# Altium schematic symbol library Analog_Switch.SchLib: 165 symbols (part 1 of 2)
Pins are listed as number, name and electrical type; pins without a type are passive.

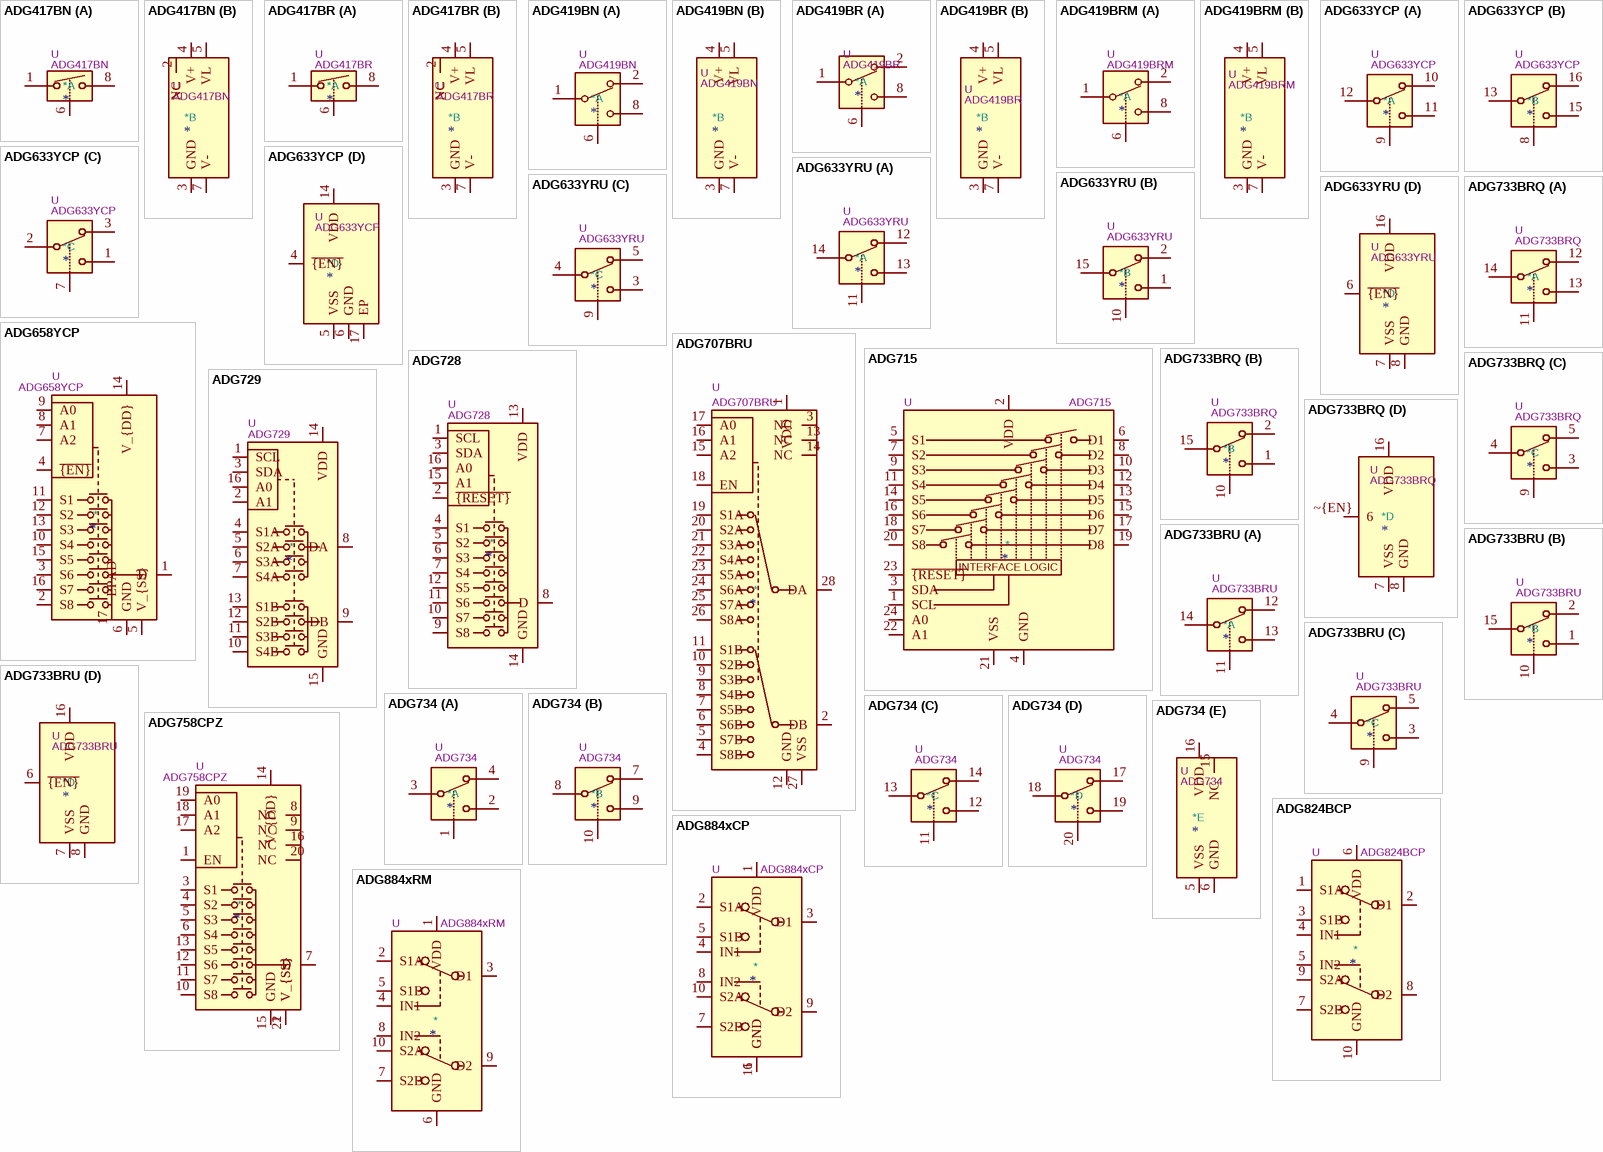
[diagram p0: symbols ADG417BN to ADG884xRM]

## ADG417BN
designator *  value ADG417BN  Reference: U
Single SPST Monolithic LC²MOS Analog Switch, normally OFF, 25Ohm Ron, DIP-8; ki_keywords: CMOS Analog Switch; ki_fp_filters: DIP*W7.62mm*; Footprint: Package_DIP:DIP-8_W7.62mm; Datasheet: https://www.analog.com/media/en/technical-documentation/data-sheets/ADG417.pdf; Description_: Single SPST Monolithic LC²MOS Analog Switch, normally OFF, 25Ohm Ron, DIP-8
part A pins: 1, 6, 8
part B pins: 2 NC, 3 GND, 4 V+, 5 VL, 7 V-

## ADG417BR
designator *  value ADG417BR  Reference: U
Single SPST Monolithic LC²MOS Analog Switch, normally OFF, 25Ohm Ron, SOIC-8; ki_keywords: CMOS Analog Switch; ki_fp_filters: SOIC*3.9x4.9mm*P1.27mm*; Footprint: Package_SO:SOIC-8_3.9x4.9mm_P1.27mm; Datasheet: https://www.analog.com/media/en/technical-documentation/data-sheets/ADG417.pdf; Description_: Single SPST Monolithic LC²MOS Analog Switch, normally OFF, 25Ohm Ron, SOIC-8
part A pins: 1, 6, 8
part B pins: 2 NC, 3 GND, 4 V+, 5 VL, 7 V-

## ADG419BN
designator *  value ADG419BN  Reference: U
Single SPDT Monolithic LC²MOS Analog Switch, 25Ohm Ron, DIP-8; ki_keywords: CMOS Analog Switch; ki_fp_filters: DIP*W7.62mm*; Footprint: Package_DIP:DIP-8_W7.62mm; Datasheet: https://www.analog.com/media/en/technical-documentation/data-sheets/ADG419.pdf; Description_: Single SPDT Monolithic LC²MOS Analog Switch, 25Ohm Ron, DIP-8
part A pins: 1, 2, 6, 8
part B pins: 3 GND, 4 V+, 5 VL, 7 V-

## ADG419BR
designator *  value ADG419BR  Reference: U
Single SPDT Monolithic LC²MOS Analog Switch, 25Ohm Ron, SOIC-8; ki_keywords: CMOS Analog Switch; ki_fp_filters: SOIC*3.9x4.9mm*P1.27mm*; Footprint: Package_SO:SOIC-8_3.9x4.9mm_P1.27mm; Datasheet: https://www.analog.com/media/en/technical-documentation/data-sheets/ADG419.pdf; Description_: Single SPDT Monolithic LC²MOS Analog Switch, 25Ohm Ron, SOIC-8
part A pins: 1, 2, 6, 8
part B pins: 3 GND, 4 V+, 5 VL, 7 V-

## ADG419BRM
designator *  value ADG419BRM  Reference: U
Single SPDT Monolithic LC²MOS Analog Switch, 25Ohm Ron, MSOP-8; ki_keywords: CMOS Analog Switch; ki_fp_filters: MSOP*3x3mm*P0.65mm*; Footprint: Package_SO:MSOP-8_3x3mm_P0.65mm; Datasheet: https://www.analog.com/media/en/technical-documentation/data-sheets/ADG419.pdf; Description_: Single SPDT Monolithic LC²MOS Analog Switch, 25Ohm Ron, MSOP-8
part A pins: 1, 2, 6, 8
part B pins: 3 GND, 4 V+, 5 VL, 7 V-

## ADG633YCP
designator *  value ADG633YCP  Reference: U
Triple SPDT CMOS Analog Switch, 52Ohm Ron, LFCSP-16; ki_fp_filters: LFCSP*1EP*4x4mm*P0.65mm*; Footprint: Package_CSP:LFCSP-16-1EP_4x4mm_P0.65mm_EP2.1x2.1mm; Datasheet: https://www.analog.com/media/en/technical-documentation/data-sheets/adg633.pdf; Description_: Triple SPDT CMOS Analog Switch, 52Ohm Ron, LFCSP-16; ki_keywords: CMOS Analog Switch
part A pins: 9, 10, 11, 12
part B pins: 8, 13, 15, 16
part C pins: 1, 2, 3, 7
part D pins: 4 ~{{EN}}, 5 VSS, 6 GND, 14 VDD, 17 EP

## ADG633YRU
designator *  value ADG633YRU  Reference: U
Triple SPDT CMOS Analog Switch, 52Ohm Ron, TSSOP-16; ki_fp_filters: TSSOP*4.4x5mm*P0.65mm*; Footprint: Package_SO:TSSOP-16_4.4x5mm_P0.65mm; Datasheet: https://www.analog.com/media/en/technical-documentation/data-sheets/ADG633.pdf; Description_: Triple SPDT CMOS Analog Switch, 52Ohm Ron, TSSOP-16; ki_keywords: CMOS Analog Switch
part A pins: 11, 12, 13, 14
part B pins: 1, 2, 10, 15
part C pins: 3, 4, 5, 9
part D pins: 6 ~{{EN}}, 7 VSS, 8 GND, 16 VDD

## ADG658YCP
designator *  value ADG658YCP  Reference: U
8-channel iCMOS analog multiplexer, 45 Ohm Ron, 210 MHz, LFCSP-16; ki_keywords: analog switch multiplexer SP8T; ki_fp_filters: *LFCSP*1EP*4x4mm*P0.65mm*; Footprint: Package_CSP:Analog_LFCSP-16-1EP_4x4mm_P0.65mm_EP2.1x2.1mm; Datasheet: https://www.analog.com/media/en/technical-documentation/data-sheets/ADG658_659.pdf; Description_: 8-channel iCMOS analog multiplexer, 45 Ohm Ron, 210 MHz, LFCSP-16
pins: 1 D, 2 S8, 3 S6, 4 ~{{EN}}, 5 V_{SS}, 6 GND, 7 A2, 8 A1, 9 A0, 10 S4, 11 S1, 12 S2, 13 S3, 14 V_{DD}, 15 S5, 16 S7, 17 EPAD

## ADG707BRU
designator *  value ADG707BRU  Reference: U
Differential 8-to-1 Multiplexer, 2.5 Ohm Ron, 36Mhz, TSSOP-28; ki_keywords: analog switch selector differencial multiplexer; ki_fp_filters: TSSOP*4.4x9.7mm*P0.65mm*; Footprint: Package_SO:TSSOP-28_4.4x9.7mm_P0.65mm; Datasheet: https://www.analog.com/media/en/technical-documentation/data-sheets/ADG706_707.pdf; Description_: Differential 8-to-1 Multiplexer, 2.5 Ohm Ron, 36Mhz, TSSOP-28
pins: 1 VDD, 2 DB, 3 NC, 4 S8B, 5 S7B, 6 S6B, 7 S5B, 8 S4B, 9 S3B, 10 S2B, 11 S1B, 12 GND, 13 NC, 14 NC, 15 A2, 16 A1, 17 A0, 18 EN, 19 S1A, 20 S2A, 21 S3A, 22 S4A, 23 S5A, 24 S6A, 25 S7A, 26 S8A, 27 VSS, 28 DA

## ADG715
designator *  value ADG715  Reference: U
CMOS, Low Voltage, Serially Controlled, Octal SPST Switch, I2C interface, TSSOP-24; ki_keywords: CMOS, Switch, I2C; ki_fp_filters: TSSOP*4.4x7.8mm*P0.65mm*; Footprint: Package_SO:TSSOP-24_4.4x7.8mm_P0.65mm; Datasheet: https://www.analog.com/media/en/technical-documentation/data-sheets/ADG714_715.pdf; Description_: CMOS, Low Voltage, Serially Controlled, Octal SPST Switch, I2C interface, TSSOP-24
pins: 1 SCL, 2 VDD, 3 SDA, 4 GND, 5 S1, 6 D1, 7 S2, 8 D2, 9 S3, 10 D3, 11 S4, 12 D4, 13 D5, 14 S5, 15 D6, 16 S6, 17 D7, 18 S7, 19 D8, 20 S8, 21 VSS, 22 A1, 23 ~{{RESET}}, 24 A0
text: INTERFACE LOGIC

## ADG728
designator *  value ADG728  Reference: U
Single 8-to-1 CMOS Low Voltage 2-Wire Serially Controlled, Matrix Switches; ki_keywords: analog switch selector multiplexer TWI I2C IIC 8-to-1; ki_fp_filters: TSSOP*4.4x5mm*P0.65mm*; Footprint: Package_SO:TSSOP-16_4.4x5mm_P0.65mm; Datasheet: https://www.analog.com/media/en/technical-documentation/data-sheets/ADG728_729.pdf; Description_: Single 8-to-1 CMOS Low Voltage 2-Wire Serially Controlled, Matrix Switches
pins: 1 SCL, 2 ~{{RESET}}, 3 SDA, 4 S1, 5 S2, 6 S3, 7 S4, 8 D, 9 S8, 10 S7, 11 S6, 12 S5, 13 VDD, 14 GND, 15 A1, 16 A0

## ADG729
designator *  value ADG729  Reference: U
Dual 4-to-1 CMOS Low Voltage 2-Wire Serially Controlled, Matrix Switches; ki_keywords: analog switch selector multiplexer TWI I2C IIC 4-to-1; ki_fp_filters: TSSOP*4.4x5mm*P0.65mm*; Footprint: Package_SO:TSSOP-16_4.4x5mm_P0.65mm; Datasheet: https://www.analog.com/media/en/technical-documentation/data-sheets/ADG728_729.pdf; Description_: Dual 4-to-1 CMOS Low Voltage 2-Wire Serially Controlled, Matrix Switches
pins: 1 SCL, 2 A1, 3 SDA, 4 S1A, 5 S2A, 6 S3A, 7 S4A, 8 DA, 9 DB, 10 S4B, 11 S3B, 12 S2B, 13 S1B, 14 VDD, 15 GND, 16 A0

## ADG733BRQ
designator *  value ADG733BRQ  Reference: U
Triple SPDT CMOS Analog Switch, 2.5Ohm Ron, QSOP-16; ki_fp_filters: QSOP*3.9x4.9mm*P0.635mm*; Footprint: Package_SO:QSOP-16_3.9x4.9mm_P0.635mm; Datasheet: https://www.analog.com/media/en/technical-documentation/data-sheets/ADG733_734.pdf; Description_: Triple SPDT CMOS Analog Switch, 2.5Ohm Ron, QSOP-16; ki_keywords: CMOS Analog Switch
part A pins: 11, 12, 13, 14
part B pins: 1, 2, 10, 15
part C pins: 3, 4, 5, 9
part D pins: 7 VSS, 8 GND, 16 VDD, ~{EN} 6

## ADG733BRU
designator *  value ADG733BRU  Reference: U
Triple SPDT CMOS Analog Switch, 2.5Ohm Ron, TSSOP-16; ki_fp_filters: TSSOP*4.4x5mm*P0.65mm*; Footprint: Package_SO:TSSOP-16_4.4x5mm_P0.65mm; Datasheet: https://www.analog.com/media/en/technical-documentation/data-sheets/ADG733_734.pdf; Description_: Triple SPDT CMOS Analog Switch, 2.5Ohm Ron, TSSOP-16; ki_keywords: CMOS Analog Switch
part A pins: 11, 12, 13, 14
part B pins: 1, 2, 10, 15
part C pins: 3, 4, 5, 9
part D pins: 6 ~{{EN}}, 7 VSS, 8 GND, 16 VDD

## ADG734
designator *  value ADG734  Reference: U
Quad SPDT CMOS Analog Switch, 2.5Ohm Ron, TSSOP-20; ki_fp_filters: TSSOP*4.4x6.5mm*P0.65mm*; Footprint: Package_SO:TSSOP-20_4.4x6.5mm_P0.65mm; Datasheet: https://www.analog.com/media/en/technical-documentation/data-sheets/ADG733_734.pdf; Description_: Quad SPDT CMOS Analog Switch, 2.5Ohm Ron, TSSOP-20; ki_keywords: CMOS Analog Switch
part A pins: 1, 2, 3, 4
part B pins: 7, 8, 9, 10
part C pins: 11, 12, 13, 14
part D pins: 17, 18, 19, 20
part E pins: 5 VSS, 6 GND, 15 NC, 16 VDD

## ADG758CPZ
designator *  value ADG758CPZ  Reference: U
8-channel CMOS analog multiplexer, 3 Ohm Ron, 55 MHz, LFCSP-20; ki_keywords: analog switch multiplexer SP8T; ki_fp_filters: *LFCSP*1EP*4x4mm*P0.5mm*; Footprint: Package_CSP:LFCSP-20-1EP_4x4mm_P0.5mm_EP2.1x2.1mm; Datasheet: https://www.analog.com/media/en/technical-documentation/data-sheets/ADG758_759.pdf; Description_: 8-channel CMOS analog multiplexer, 3 Ohm Ron, 55 MHz, LFCSP-20
pins: 1 EN, 2 V_{SS}, 3 S1, 4 S2, 5 S3, 6 S4, 7 D, 8 NC, 9 NC, 10 S8, 11 S7, 12 S6, 13 S5, 14 V_{DD}, 15 GND, 16 NC, 17 A2, 18 A1, 19 A0, 20 NC, 21 V_{SS}

## ADG824BCP
designator *  value ADG824BCP  Reference: U
0.5Ω CMOS 1.65V to 3.6V Dual SPDT/2:1 MUX, Mini LFCSP-10 Package 1.3x1.6mm; ki_keywords: analog switch; ki_fp_filters: Analog_LFCSP*1.3x1.6mm*P0.4mm*; Footprint: Package_CSP:Analog_LFCSP-UQ-10_1.3x1.6mm_P0.4mm; Datasheet: https://www.analog.com/media/en/technical-documentation/data-sheets/ADG884.pdf; Description_: 0.5Ω CMOS 1.65V to 3.6V Dual SPDT/2:1 MUX, Mini LFCSP-10 Package 1.3x1.6mm
pins: 1 S1A, 2 D1, 3 S1B, 4 IN1, 5 IN2, 6 VDD, 7 S2B, 8 D2, 9 S2A, 10 GND

## ADG884xCP
designator *  value ADG884xCP  Reference: U
0.5Ω CMOS, Dual 2:1 MUX/SPDT Audio Switch, LFCSP-WD-10; ki_keywords: analog switch; ki_fp_filters: LFCSP*1EP*3x3mm*P0.5mm*; Footprint: Package_CSP:LFCSP-WD-10-1EP_3x3mm_P0.5mm_EP1.64x2.38mm; Datasheet: https://www.analog.com/media/en/technical-documentation/data-sheets/ADG884.pdf; Description_: 0.5Ω CMOS, Dual 2:1 MUX/SPDT Audio Switch, LFCSP-WD-10
pins: 1 VDD, 2 S1A, 3 D1, 4 IN1, 5 S1B, 6 GND, 7 S2B, 8 IN2, 9 D2, 10 S2A, 11 GND

## ADG884xRM
designator *  value ADG884xRM  Reference: U
0.5Ω CMOS, Dual 2:1 MUX/SPDT Audio Switch, MSOP-10; ki_keywords: analog switch; ki_fp_filters: MSOP*3x3mm*P0.5mm*; Footprint: Package_SO:MSOP-10_3x3mm_P0.5mm; Datasheet: https://www.analog.com/media/en/technical-documentation/data-sheets/ADG884.pdf; Description_: 0.5Ω CMOS, Dual 2:1 MUX/SPDT Audio Switch, MSOP-10
pins: 1 VDD, 2 S1A, 3 D1, 4 IN1, 5 S1B, 6 GND, 7 S2B, 8 IN2, 9 D2, 10 S2A

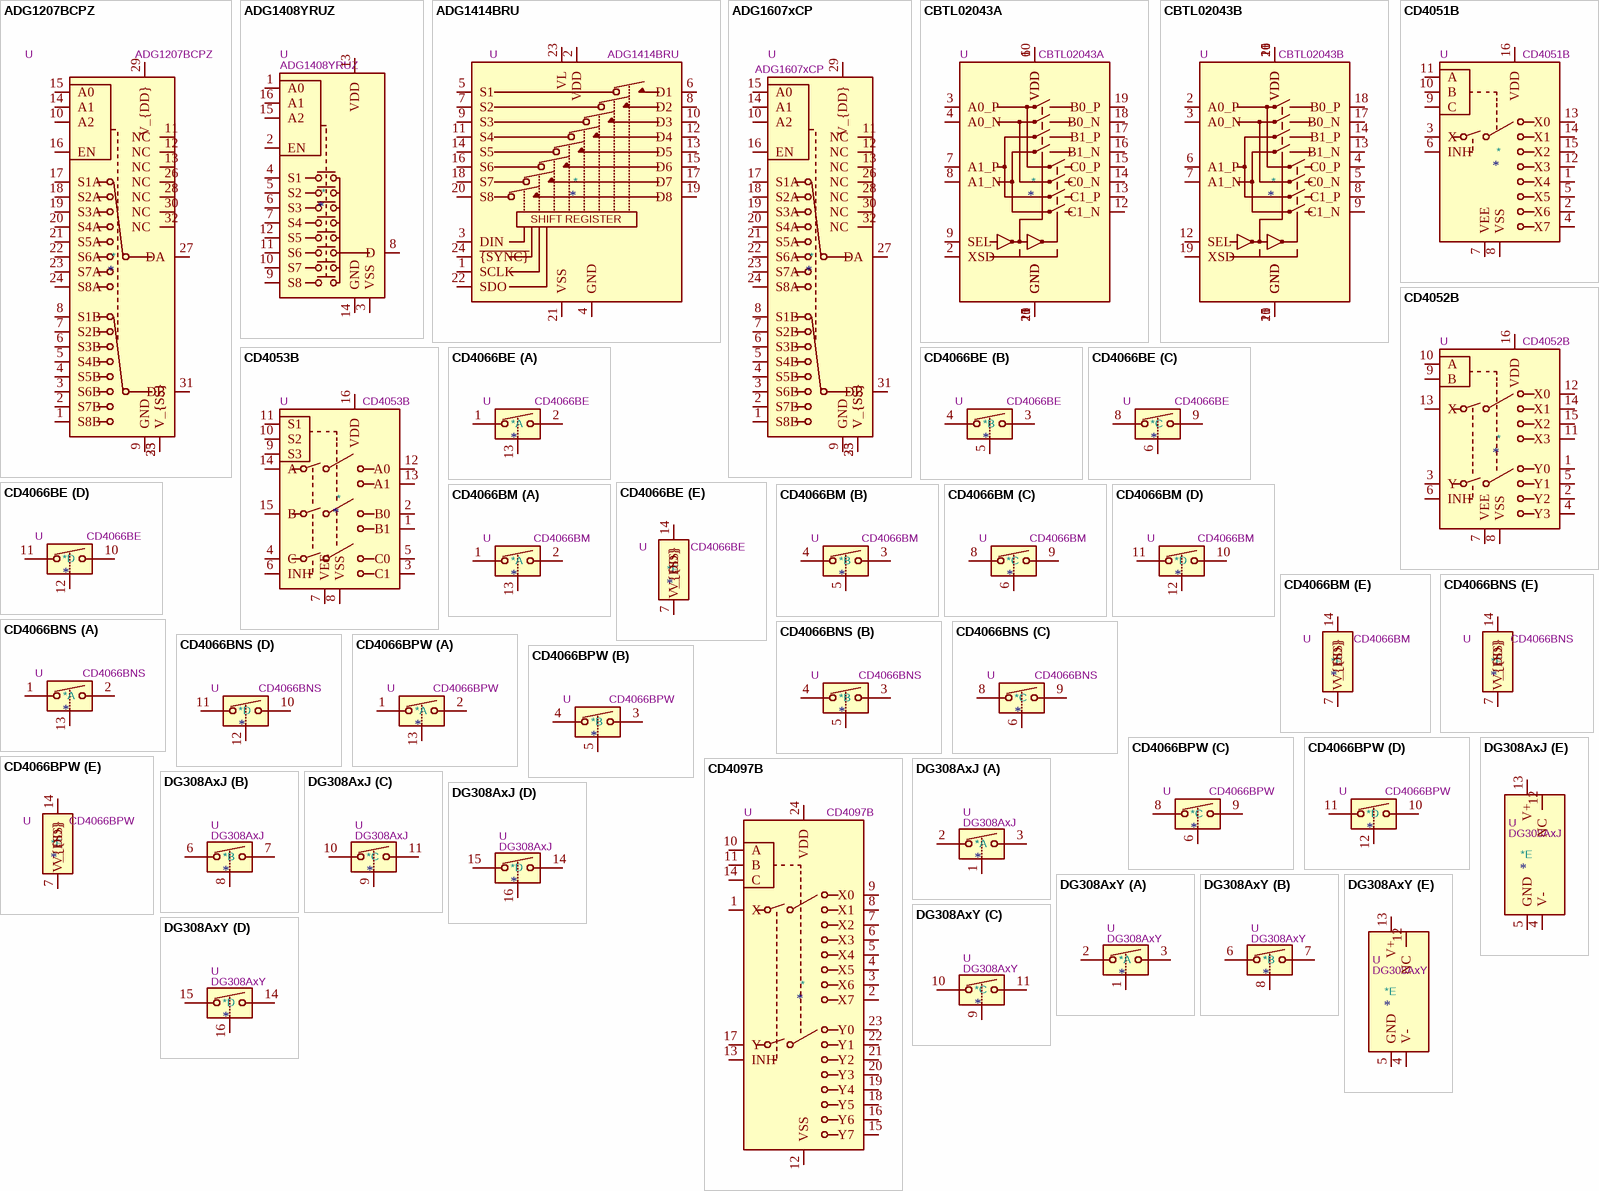
[diagram p1: symbols ADG1207BCPZ to DG308AxY]

## ADG1207BCPZ
designator *  value ADG1207BCPZ  Reference: U
Differential 8-channel ±5V, +12V, +5V, and +3.3V iCMOS analog multiplexer, 4.5 Ohm Ron, 37 MHz, LFCSP-32 5x5mm; ki_keywords: analog switch multiplexer DP8T; ki_fp_filters: LFCSP?32*5x5mm*P0.5mm*; Footprint: Package_CSP:LFCSP-32-1EP_5x5mm_P0.5mm_EP3.1x3.1mm; Datasheet: https://www.analog.com/media/en/technical-documentation/data-sheets/ADG1206_1207.pdf; Description_: Differential 8-channel ±5V, +12V, +5V, and +3.3V iCMOS analog multiplexer, 4.5 Ohm Ron, 37 MHz, LFCSP-32 5x5mm
pins: 1 S8B, 2 S7B, 3 S6B, 4 S5B, 5 S4B, 6 S3B, 7 S2B, 8 S1B, 9 GND, 10 A2, 11 NC, 12 NC, 13 NC, 14 A1, 15 A0, 16 EN, 17 S1A, 18 S2A, 19 S3A, 20 S4A, 21 S5A, 22 S6A, 23 S7A, 24 S8A, 25 V_{SS}, 26 NC, 27 DA, 28 NC, 29 V_{DD}, 30 NC, 31 DB, 32 NC, 33 V_{SS}

## ADG1408YRUZ
designator *  value ADG1408YRUZ  Reference: U
8-channel iCMOS analog multiplexer, 4.7 Ohm Ron, 60 MHz, TSSOP-16; ki_keywords: analog switch  multiplexer SP8T; ki_fp_filters: TSSOP*4.4x5mm*P0.65mm*; Footprint: Package_SO:TSSOP-16_4.4x5mm_P0.65mm; Datasheet: https://www.analog.com/media/en/technical-documentation/data-sheets/ADG1408_1409.pdf; Description_: 8-channel iCMOS analog multiplexer, 4.7 Ohm Ron, 60 MHz, TSSOP-16
pins: 1 A0, 2 EN, 3 VSS, 4 S1, 5 S2, 6 S3, 7 S4, 8 D, 9 S8, 10 S7, 11 S6, 12 S5, 13 VDD, 14 GND, 15 A2, 16 A1

## ADG1414BRU
designator *  value ADG1414BRU  Reference: U
±15V, +12V, ±5V, 9.5 Ohm on resistance, iCMOS Serially-Controlled Octal SPST Switches, TSSOP-24; ki_keywords: SPI SPST Analog Switches; ki_fp_filters: TSSOP*4.4x7.8mm*P0.65mm*; Footprint: Package_SO:TSSOP-24_4.4x7.8mm_P0.65mm; Datasheet: https://www.analog.com/media/en/technical-documentation/data-sheets/ADG1414.pdf; Description_: ±15V, +12V, ±5V, 9.5 Ohm on resistance, iCMOS Serially-Controlled Octal SPST Switches, TSSOP-24
pins: 1 SCLK, 2 VDD, 3 DIN, 4 GND, 5 S1, 6 D1, 7 S2, 8 D2, 9 S3, 10 D3, 11 S4, 12 D4, 13 D5, 14 S5, 15 D6, 16 S6, 17 D7, 18 S7, 19 D8, 20 S8, 21 VSS, 22 SDO, 23 VL, 24 ~{{SYNC}}
text: SHIFT REGISTER

## ADG1607xCP
designator *  value ADG1607xCP  Reference: U
Differential 8-channel ±5V, +12V, +5V, and +3.3V iCMOS analog multiplexer, 4.5 Ohm Ron, 37 MHz, LFCSP-32 5x5mm; ki_keywords: analog switch multiplexer DP8T; ki_fp_filters: LFCSP*1EP*5x5mm*P0.5mm*; Footprint: Package_CSP:LFCSP-32-1EP_5x5mm_P0.5mm_EP3.1x3.1mm; Datasheet: https://www.analog.com/media/en/technical-documentation/data-sheets/ADG1606_1607.pdf; Description_: Differential 8-channel ±5V, +12V, +5V, and +3.3V iCMOS analog multiplexer, 4.5 Ohm Ron, 37 MHz, LFCSP-32 5x5mm
pins: 1 S8B, 2 S7B, 3 S6B, 4 S5B, 5 S4B, 6 S3B, 7 S2B, 8 S1B, 9 GND, 10 A2, 11 NC, 12 NC, 13 NC, 14 A1, 15 A0, 16 EN, 17 S1A, 18 S2A, 19 S3A, 20 S4A, 21 S5A, 22 S6A, 23 S7A, 24 S8A, 25 V_{SS}, 26 NC, 27 DA, 28 NC, 29 V_{DD}, 30 NC, 31 DB, 32 NC, 33 V_{SS}

## CBTL02043A
designator *  value CBTL02043A  Reference: U
3.3 V, 2 differential channel, 2:1 MUX/deMUX switch, 10 Gbps, WQFN-20; ki_keywords: Multiplexer Demultiplexer Switch Hi-Speed; ki_fp_filters: WQFN*1EP*2.5x4.5mm*P0.5mm*; Footprint: Package_DFN_QFN:WQFN-20-1EP_2.5x4.5mm_P0.5mm_EP1x2.9mm; Datasheet: https://www.nxp.com/docs/en/data-sheet/CBTL02043A_CBTL02043B.pdf; Description_: 3.3 V, 2 differential channel, 2:1 MUX/deMUX switch, 10 Gbps, WQFN-20
pins: 1 VDD, 2 XSD, 3 A0_P, 4 A0_N, 5 GND, 6 VDD, 7 A1_P, 8 A1_N, 9 SEL, 10 VDD, 11 GND, 12 C1_N, 13 C1_P, 14 C0_N, 15 C0_P, 16 B1_N, 17 B1_P, 18 B0_N, 19 B0_P, 20 GND, 21 GND

## CBTL02043B
designator *  value CBTL02043B  Reference: U
3.3 V, 2 differential channel, 2:1 MUX/deMUX switch, 10 Gbps, WQFN-20; ki_keywords: Multiplexer Demultiplexer Switch Hi-Speed; ki_fp_filters: WQFN*1EP*2.5x4.5mm*P0.5mm*; Footprint: Package_DFN_QFN:WQFN-20-1EP_2.5x4.5mm_P0.5mm_EP1x2.9mm; Datasheet: https://www.nxp.com/docs/en/data-sheet/CBTL02043A_CBTL02043B.pdf; Description_: 3.3 V, 2 differential channel, 2:1 MUX/deMUX switch, 10 Gbps, WQFN-20
pins: 1 GND, 2 A0_P, 3 A0_N, 4 C0_P, 5 C0_N, 6 A1_P, 7 A1_N, 8 C1_P, 9 C1_N, 10 GND, 11 VDD, 12 SEL, 13 B1_N, 14 B1_P, 15 GND, 16 VDD, 17 B0_N, 18 B0_P, 19 XSD, 20 VDD, 21 GND

## CD4051B
designator *  value CD4051B  Reference: U
CMOS single 8-channel analog multiplexer demultiplexer, TSSOP-16/DIP-16/SOIC-16; ki_keywords: analog switch selector multiplexer; ki_fp_filters: TSSOP*4.4x5mm*P0.65mm* DIP*W7.62* SOIC*3.9x9.9mm*P1.27mm* SO*5.3x10.2mm*P1.27mm*; Datasheet: http://www.ti.com/lit/ds/symlink/cd4052b.pdf; Description_: CMOS single 8-channel analog multiplexer demultiplexer, TSSOP-16/DIP-16/SOIC-16
pins: 1 X4, 2 X6, 3 X, 4 X7, 5 X5, 6 INH, 7 VEE, 8 VSS, 9 C, 10 B, 11 A, 12 X3, 13 X0, 14 X1, 15 X2, 16 VDD

## CD4052B
designator *  value CD4052B  Reference: U
CMOS double 4-channel analog multiplexer/demultiplexer, TSSOP-16/DIP-16/SOIC-16; ki_keywords: analog switch selector multiplexer; ki_fp_filters: TSSOP*4.4x5mm*P0.65mm* DIP*W7.62* SOIC*3.9x9.9mm*P1.27mm* SO*5.3x10.2mm*P1.27mm*; Datasheet: http://www.ti.com/lit/ds/symlink/cd4052b.pdf; Description_: CMOS double 4-channel analog multiplexer/demultiplexer, TSSOP-16/DIP-16/SOIC-16
pins: 1 Y0, 2 Y2, 3 Y, 4 Y3, 5 Y1, 6 INH, 7 VEE, 8 VSS, 9 B, 10 A, 11 X3, 12 X0, 13 X, 14 X1, 15 X2, 16 VDD

## CD4053B
designator *  value CD4053B  Reference: U
CMOS triple 2-channel analog multiplexer/demultiplexer, TSSOP-16/DIP-16/SOIC-16; ki_keywords: analog switch selector multiplexer; ki_fp_filters: TSSOP*4.4x5mm*P0.65mm* DIP*W7.62* SOIC*3.9x9.9mm*P1.27mm* SO*5.3x10.2mm*P1.27mm*; Datasheet: http://www.ti.com/lit/ds/symlink/cd4052b.pdf; Description_: CMOS triple 2-channel analog multiplexer/demultiplexer, TSSOP-16/DIP-16/SOIC-16
pins: 1 B1, 2 B0, 3 C1, 4 C, 5 C0, 6 INH, 7 VEE, 8 VSS, 9 S3, 10 S2, 11 S1, 12 A0, 13 A1, 14 A, 15 B, 16 VDD

## CD4066BE
designator *  value CD4066BE  Reference: U
Quad 20V analog SPST 1:1 switch, DIP-14; ki_keywords: analog switch selector multiplexer spst mux amux; ki_fp_filters: DIP*W7.62*; Footprint: Package_DIP:DIP-14_W7.62mm; Datasheet: https://www.ti.com/lit/ds/symlink/cd4066b.pdf; Description_: Quad 20V analog SPST 1:1 switch, DIP-14
part A pins: 1, 2, 13
part B pins: 3, 4, 5
part C pins: 6, 8, 9
part D pins: 10, 11, 12
part E pins: 7 V_{SS}, 14 V_{DD}

## CD4066BM
designator *  value CD4066BM  Reference: U
Quad 20V analog SPST 1:1 switch, SO-14 (3.9x8.65mm); ki_keywords: analog switch selector multiplexer spst mux amux; ki_fp_filters: SO*3.9x8.65mm*P1.27mm*; Footprint: Package_SO:SO-14_3.9x8.65mm_P1.27mm; Datasheet: https://www.ti.com/lit/ds/symlink/cd4066b.pdf; Description_: Quad 20V analog SPST 1:1 switch, SO-14 (3.9x8.65mm)
part A pins: 1, 2, 13
part B pins: 3, 4, 5
part C pins: 6, 8, 9
part D pins: 10, 11, 12
part E pins: 7 V_{SS}, 14 V_{DD}

## CD4066BNS
designator *  value CD4066BNS  Reference: U
Quad 20V analog SPST 1:1 switch, SO-14 (5.3x10.2mm); ki_keywords: analog switch selector multiplexer spst mux amux; ki_fp_filters: SO*5.3x10.2mm*P1.27mm*; Footprint: Package_SO:SO-14_5.3x10.2mm_P1.27mm; Datasheet: https://www.ti.com/lit/ds/symlink/cd4066b.pdf; Description_: Quad 20V analog SPST 1:1 switch, SO-14 (5.3x10.2mm)
part A pins: 1, 2, 13
part B pins: 3, 4, 5
part C pins: 6, 8, 9
part D pins: 10, 11, 12
part E pins: 7 V_{SS}, 14 V_{DD}

## CD4066BPW
designator *  value CD4066BPW  Reference: U
Quad 20V analog SPST 1:1 switch, TSSOP-14; ki_keywords: analog switch selector multiplexer spst mux amux; ki_fp_filters: TSSOP*4.4x5mm*P0.65mm*; Footprint: Package_SO:TSSOP-14_4.4x5mm_P0.65mm; Datasheet: https://www.ti.com/lit/ds/symlink/cd4066b.pdf; Description_: Quad 20V analog SPST 1:1 switch, TSSOP-14
part A pins: 1, 2, 13
part B pins: 3, 4, 5
part C pins: 6, 8, 9
part D pins: 10, 11, 12
part E pins: 7 V_{SS}, 14 V_{DD}

## CD4097B
designator *  value CD4097B  Reference: U
CMOS double 8-channel analog multiplexer/demultiplexer, TSSOP-24/DIP-24/SOIC-24; ki_keywords: analog switch selector multiplexer; ki_fp_filters: TSSOP*4.4x7.8mm*P0.65mm* SOIC*7.5*15.4*1.27mm* SO*5.3x15.0mm*P1.27mm* DIP*15.24mm*; Datasheet: http://www.ti.com/lit/ds/symlink/cd4097b.pdf; Description_: CMOS double 8-channel analog multiplexer/demultiplexer, TSSOP-24/DIP-24/SOIC-24
pins: 1 X, 2 X7, 3 X6, 4 X5, 5 X4, 6 X3, 7 X2, 8 X1, 9 X0, 10 A, 11 B, 12 VSS, 13 INH, 14 C, 15 Y7, 16 Y6, 17 Y, 18 Y5, 19 Y4, 20 Y3, 21 Y2, 22 Y1, 23 Y0, 24 VDD

## DG308AxJ
designator *  value DG308AxJ  Reference: U
Quad SPST Analog Switches, normally OFF, 60Ohm Ron, DIP-16; ki_keywords: CMOS Analog Switch; ki_fp_filters: DIP*W7.62mm*; Footprint: Package_DIP:DIP-16_W7.62mm; Datasheet: http://pdf.datasheetcatalog.com/datasheets/70/494502_DS.pdf; Description_: Quad SPST Analog Switches, normally OFF, 60Ohm Ron, DIP-16
part A pins: 1, 2, 3
part B pins: 6, 7, 8
part C pins: 9, 10, 11
part D pins: 14, 15, 16
part E pins: 4 V-, 5 GND, 12 NC, 13 V+

## DG308AxY
designator *  value DG308AxY  Reference: U
Quad SPST Analog Switches, normally OFF, 60Ohm Ron, SOIC-16; ki_keywords: CMOS Analog Switch; ki_fp_filters: SOIC*3.9x9.9mm*P1.27mm*; Footprint: Package_SO:SOIC-16_3.9x9.9mm_P1.27mm; Datasheet: http://pdf.datasheetcatalog.com/datasheets/70/494502_DS.pdf; Description_: Quad SPST Analog Switches, normally OFF, 60Ohm Ron, SOIC-16
part A pins: 1, 2, 3
part B pins: 6, 7, 8
part C pins: 9, 10, 11
part D pins: 14, 15, 16
part E pins: 4 V-, 5 GND, 12 NC, 13 V+

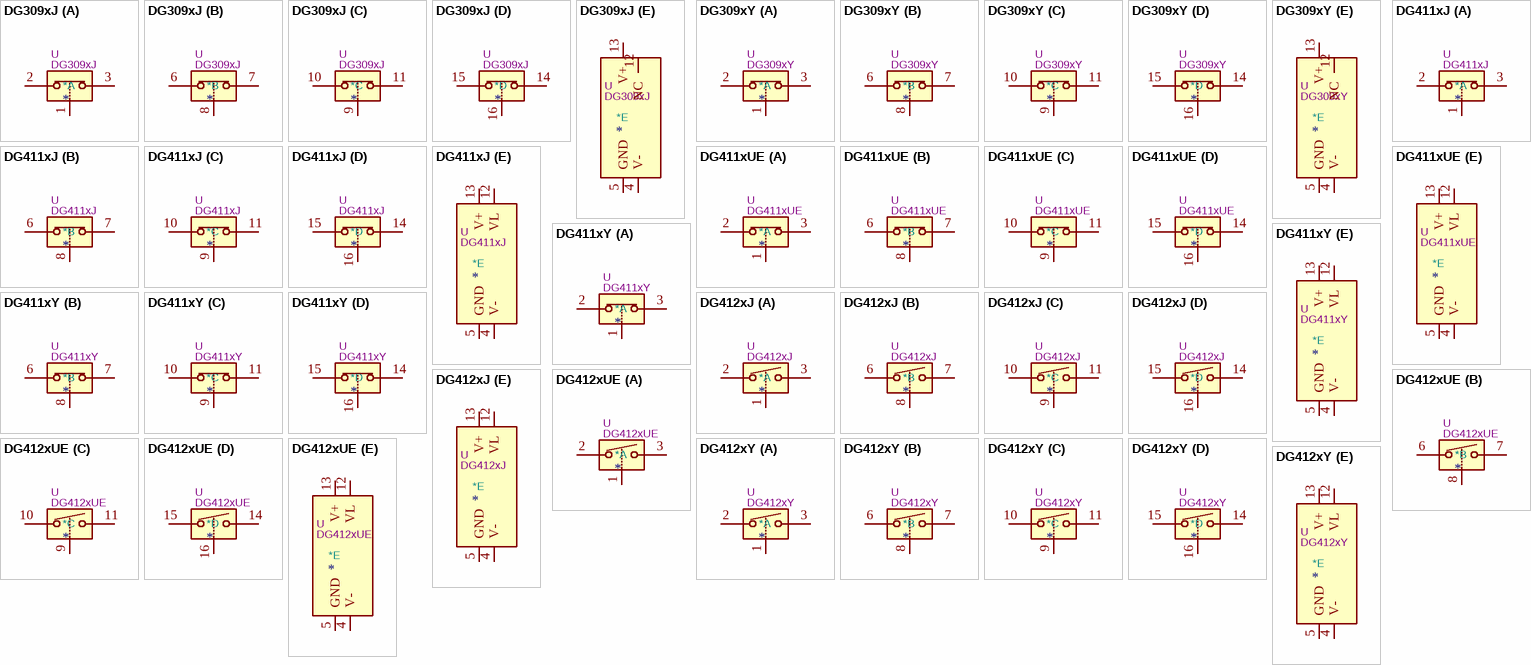
[diagram p2: symbols DG309xJ to DG412xY]

## DG309xJ
designator *  value DG309xJ  Reference: U
Quad SPST Analog Switches, normally ON, 60Ohm Ron, DIP-16; ki_keywords: CMOS Analog Switch; ki_fp_filters: DIP*W7.62mm*; Footprint: Package_DIP:DIP-16_W7.62mm; Datasheet: http://pdf.datasheetcatalog.com/datasheets/70/494502_DS.pdf; Description_: Quad SPST Analog Switches, normally ON, 60Ohm Ron, DIP-16
part A pins: 1, 2, 3
part B pins: 6, 7, 8
part C pins: 9, 10, 11
part D pins: 14, 15, 16
part E pins: 4 V-, 5 GND, 12 NC, 13 V+

## DG309xY
designator *  value DG309xY  Reference: U
Quad SPST Analog Switches, normally ON, 60Ohm Ron, SOIC-16; ki_keywords: CMOS Analog Switch; ki_fp_filters: SOIC*3.9x9.9mm*P1.27mm*; Footprint: Package_SO:SOIC-16_3.9x9.9mm_P1.27mm; Datasheet: http://pdf.datasheetcatalog.com/datasheets/70/494502_DS.pdf; Description_: Quad SPST Analog Switches, normally ON, 60Ohm Ron, SOIC-16
part A pins: 1, 2, 3
part B pins: 6, 7, 8
part C pins: 9, 10, 11
part D pins: 14, 15, 16
part E pins: 4 V-, 5 GND, 12 NC, 13 V+

## DG411xJ
designator *  value DG411xJ  Reference: U
Quad SPST Monolithic CMOS Analog Switches, normally ON, 17Ohm Ron, DIP-16; ki_fp_filters: DIP*W7.62mm*; Footprint: Package_DIP:DIP-16_W7.62mm; Datasheet: https://datasheets.maximintegrated.com/en/ds/DG411-DG413.pdf; Description_: Quad SPST Monolithic CMOS Analog Switches, normally ON, 17Ohm Ron, DIP-16; ki_keywords: CMOS Analog Switch
part A pins: 1, 2, 3
part B pins: 6, 7, 8
part C pins: 9, 10, 11
part D pins: 14, 15, 16
part E pins: 4 V-, 5 GND, 12 VL, 13 V+

## DG411xUE
designator *  value DG411xUE  Reference: U
Quad SPST Monolithic CMOS Analog Switches, normally ON, 17Ohm Ron, TSSOP-16; ki_fp_filters: TSSOP*4.4x5mm*P0.65mm*; Footprint: Package_SO:TSSOP-16_4.4x5mm_P0.65mm; Datasheet: https://datasheets.maximintegrated.com/en/ds/DG411-DG413.pdf; Description_: Quad SPST Monolithic CMOS Analog Switches, normally ON, 17Ohm Ron, TSSOP-16; ki_keywords: CMOS Analog Switch
part A pins: 1, 2, 3
part B pins: 6, 7, 8
part C pins: 9, 10, 11
part D pins: 14, 15, 16
part E pins: 4 V-, 5 GND, 12 VL, 13 V+

## DG411xY
designator *  value DG411xY  Reference: U
Quad SPST Monolithic CMOS Analog Switches, normally ON, 17Ohm Ron, SOIC-16; ki_fp_filters: SOIC*3.9x9.9mm*P1.27mm*; Footprint: Package_SO:SOIC-16_3.9x9.9mm_P1.27mm; Datasheet: https://datasheets.maximintegrated.com/en/ds/DG411-DG413.pdf; Description_: Quad SPST Monolithic CMOS Analog Switches, normally ON, 17Ohm Ron, SOIC-16; ki_keywords: CMOS Analog Switch
part A pins: 1, 2, 3
part B pins: 6, 7, 8
part C pins: 9, 10, 11
part D pins: 14, 15, 16
part E pins: 4 V-, 5 GND, 12 VL, 13 V+

## DG412xJ
designator *  value DG412xJ  Reference: U
Quad SPST Monolithic CMOS Analog Switches, normally OFF, 17Ohm Ron, DIP-16; ki_fp_filters: DIP*W7.62mm*; Footprint: Package_DIP:DIP-16_W7.62mm; Datasheet: https://datasheets.maximintegrated.com/en/ds/DG411-DG413.pdf; Description_: Quad SPST Monolithic CMOS Analog Switches, normally OFF, 17Ohm Ron, DIP-16; ki_keywords: CMOS Analog Switch
part A pins: 1, 2, 3
part B pins: 6, 7, 8
part C pins: 9, 10, 11
part D pins: 14, 15, 16
part E pins: 4 V-, 5 GND, 12 VL, 13 V+

## DG412xUE
designator *  value DG412xUE  Reference: U
Quad SPST Monolithic CMOS Analog Switches, normally OFF, 17Ohm Ron, TSSOP-16; ki_fp_filters: TSSOP*4.4x5mm*P0.65mm*; Footprint: Package_SO:TSSOP-16_4.4x5mm_P0.65mm; Datasheet: https://datasheets.maximintegrated.com/en/ds/DG411-DG413.pdf; Description_: Quad SPST Monolithic CMOS Analog Switches, normally OFF, 17Ohm Ron, TSSOP-16; ki_keywords: CMOS Analog Switch
part A pins: 1, 2, 3
part B pins: 6, 7, 8
part C pins: 9, 10, 11
part D pins: 14, 15, 16
part E pins: 4 V-, 5 GND, 12 VL, 13 V+

## DG412xY
designator *  value DG412xY  Reference: U
Quad SPST Monolithic CMOS Analog Switches, normally OFF, 17Ohm Ron, SOIC-16; ki_fp_filters: SOIC*3.9x9.9mm*P1.27mm*; Footprint: Package_SO:SOIC-16_3.9x9.9mm_P1.27mm; Datasheet: https://datasheets.maximintegrated.com/en/ds/DG411-DG413.pdf; Description_: Quad SPST Monolithic CMOS Analog Switches, normally OFF, 17Ohm Ron, SOIC-16; ki_keywords: CMOS Analog Switch
part A pins: 1, 2, 3
part B pins: 6, 7, 8
part C pins: 9, 10, 11
part D pins: 14, 15, 16
part E pins: 4 V-, 5 GND, 12 VL, 13 V+

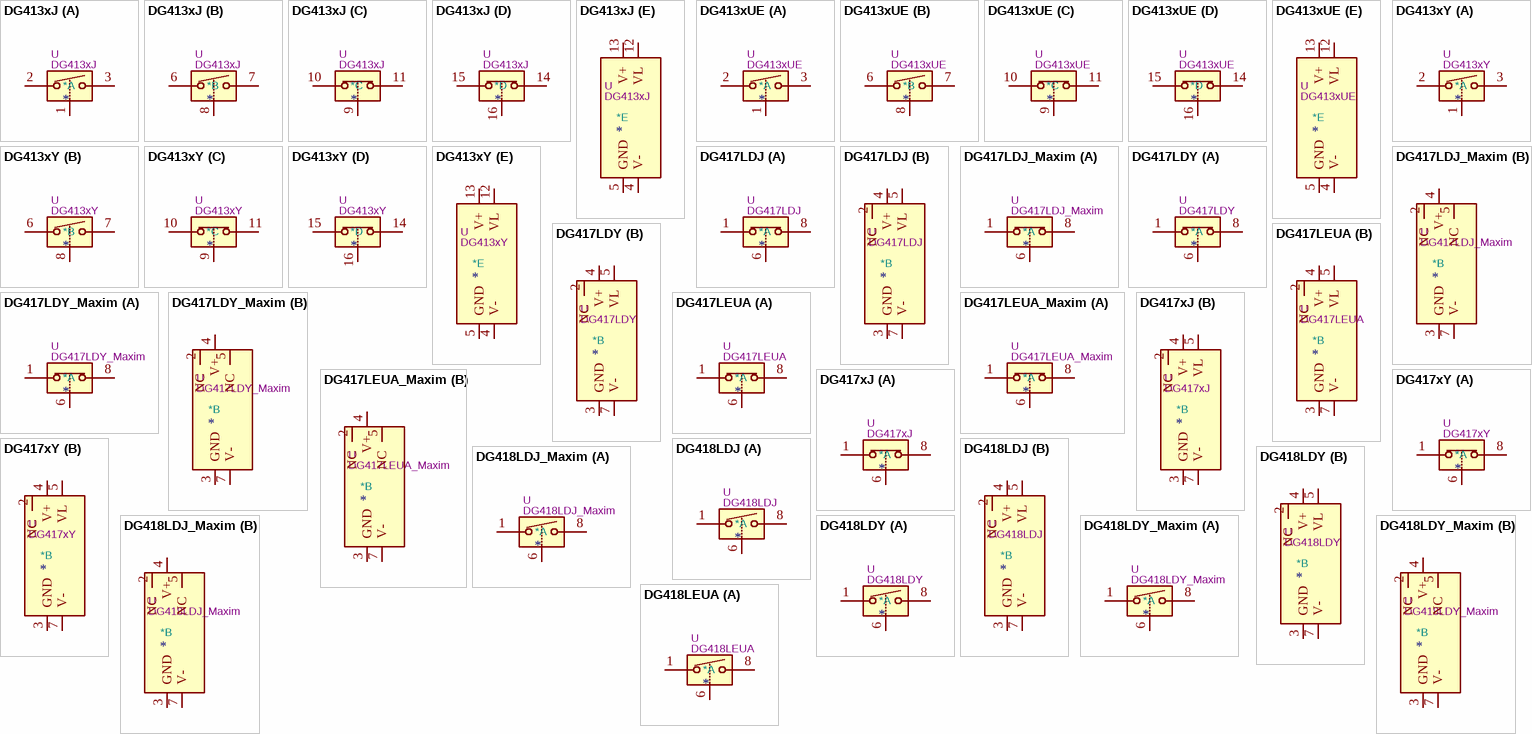
[diagram p3: symbols DG413xJ to DG418LEUA]

## DG413xJ
designator *  value DG413xJ  Reference: U
Quad SPST Monolithic CMOS Analog Switches, normally 2xON + 2xOFF, 17Ohm Ron, DIP-16; ki_fp_filters: DIP*W7.62mm*; Footprint: Package_DIP:DIP-16_W7.62mm; Datasheet: https://datasheets.maximintegrated.com/en/ds/DG411-DG413.pdf; Description_: Quad SPST Monolithic CMOS Analog Switches, normally 2xON + 2xOFF, 17Ohm Ron, DIP-16; ki_keywords: CMOS Analog Switch
part A pins: 1, 2, 3
part B pins: 6, 7, 8
part C pins: 9, 10, 11
part D pins: 14, 15, 16
part E pins: 4 V-, 5 GND, 12 VL, 13 V+

## DG413xUE
designator *  value DG413xUE  Reference: U
Quad SPST Monolithic CMOS Analog Switches, normally 2xON + 2xOFF, 17Ohm Ron, TSSOP-16; ki_fp_filters: TSSOP*4.4x5mm*P0.65mm*; Footprint: Package_SO:TSSOP-16_4.4x5mm_P0.65mm; Datasheet: https://datasheets.maximintegrated.com/en/ds/DG411-DG413.pdf; Description_: Quad SPST Monolithic CMOS Analog Switches, normally 2xON + 2xOFF, 17Ohm Ron, TSSOP-16; ki_keywords: CMOS Analog Switch
part A pins: 1, 2, 3
part B pins: 6, 7, 8
part C pins: 9, 10, 11
part D pins: 14, 15, 16
part E pins: 4 V-, 5 GND, 12 VL, 13 V+

## DG413xY
designator *  value DG413xY  Reference: U
Quad SPST Monolithic CMOS Analog Switches, normally 2xON + 2xOFF, 17Ohm Ron, SOIC-16; ki_fp_filters: SOIC*3.9x9.9mm*P1.27mm*; Footprint: Package_SO:SOIC-16_3.9x9.9mm_P1.27mm; Datasheet: https://datasheets.maximintegrated.com/en/ds/DG411-DG413.pdf; Description_: Quad SPST Monolithic CMOS Analog Switches, normally 2xON + 2xOFF, 17Ohm Ron, SOIC-16; ki_keywords: CMOS Analog Switch
part A pins: 1, 2, 3
part B pins: 6, 7, 8
part C pins: 9, 10, 11
part D pins: 14, 15, 16
part E pins: 4 V-, 5 GND, 12 VL, 13 V+

## DG417LDJ
designator *  value DG417LDJ  Reference: U
Single SPST 3V Logic Compatible CMOS Analog Switch, normally ON, 35Ohm Ron, with Vlogic, DIP-8; ki_fp_filters: DIP*W7.62mm*; Footprint: Package_DIP:DIP-8_W7.62mm; Datasheet: https://datasheets.maximintegrated.com/en/ds/DG417L-DG419L.pdf; Description_: Single SPST 3V Logic Compatible CMOS Analog Switch, normally ON, 35Ohm Ron, with Vlogic, DIP-8; ki_keywords: CMOS Analog Switch
part A pins: 1, 6, 8
part B pins: 2 NC, 3 GND, 4 V+, 5 VL, 7 V-

## DG417LDJ_Maxim
designator *  value DG417LDJ_Maxim  Reference: U
Single SPST 3V Logic Compatible CMOS Analog Switch, normally ON, 35Ohm Ron, Maxim-variant without Vlogic, DIP-8; ki_fp_filters: DIP*W7.62mm*; Footprint: Package_DIP:DIP-8_W7.62mm; Datasheet: https://datasheets.maximintegrated.com/en/ds/DG417L-DG419L.pdf; Description_: Single SPST 3V Logic Compatible CMOS Analog Switch, normally ON, 35Ohm Ron, Maxim-variant without Vlogic, DIP-8; ki_keywords: CMOS Analog Switch
part A pins: 1, 6, 8
part B pins: 2 NC, 3 GND, 4 V+, 5 NC, 7 V-

## DG417LDY
designator *  value DG417LDY  Reference: U
Single SPST 3V Logic Compatible CMOS Analog Switch, normally ON, 20Ohm Ron, with Vlogic, SOIC-8; ki_fp_filters: SOIC*3.9x4.9mm*P1.27mm*; Footprint: Package_SO:SOIC-8_3.9x4.9mm_P1.27mm; Datasheet: https://datasheets.maximintegrated.com/en/ds/DG417-DG419.pdf; Description_: Single SPST 3V Logic Compatible CMOS Analog Switch, normally ON, 20Ohm Ron, with Vlogic, SOIC-8; ki_keywords: CMOS Analog Switch
part A pins: 1, 6, 8
part B pins: 2 NC, 3 GND, 4 V+, 5 VL, 7 V-

## DG417LDY_Maxim
designator *  value DG417LDY_Maxim  Reference: U
Single SPST 3V Logic Compatible CMOS Analog Switch, normally ON, 20Ohm Ron, Maxim-variant without Vlogic, SOIC-8; ki_fp_filters: SOIC*3.9x4.9mm*P1.27mm*; Footprint: Package_SO:SOIC-8_3.9x4.9mm_P1.27mm; Datasheet: https://datasheets.maximintegrated.com/en/ds/DG417-DG419.pdf; Description_: Single SPST 3V Logic Compatible CMOS Analog Switch, normally ON, 20Ohm Ron, Maxim-variant without Vlogic, SOIC-8; ki_keywords: CMOS Analog Switch
part A pins: 1, 6, 8
part B pins: 2 NC, 3 GND, 4 V+, 5 NC, 7 V-

## DG417LEUA
designator *  value DG417LEUA  Reference: U
Single SPST 3V Logic Compatible CMOS Analog Switch, normally ON, 20Ohm Ron, with Vlogic, MSOP-8; ki_fp_filters: MSOP*3x3mm*P0.65mm*; Footprint: Package_SO:MSOP-8_3x3mm_P0.65mm; Datasheet: https://datasheets.maximintegrated.com/en/ds/DG417-DG419.pdf; Description_: Single SPST 3V Logic Compatible CMOS Analog Switch, normally ON, 20Ohm Ron, with Vlogic, MSOP-8; ki_keywords: CMOS Analog Switch
part A pins: 1, 6, 8
part B pins: 2 NC, 3 GND, 4 V+, 5 VL, 7 V-

## DG417LEUA_Maxim
designator *  value DG417LEUA_Maxim  Reference: U
Single SPST 3V Logic Compatible CMOS Analog Switch, normally ON, 20Ohm Ron, Maxim-variant without Vlogic, MSOP-8; ki_fp_filters: MSOP*3x3mm*P0.65mm*; Footprint: Package_SO:MSOP-8_3x3mm_P0.65mm; Datasheet: https://datasheets.maximintegrated.com/en/ds/DG417-DG419.pdf; Description_: Single SPST 3V Logic Compatible CMOS Analog Switch, normally ON, 20Ohm Ron, Maxim-variant without Vlogic, MSOP-8; ki_keywords: CMOS Analog Switch
part A pins: 1, 6, 8
part B pins: 2 NC, 3 GND, 4 V+, 5 NC, 7 V-

## DG417xJ
designator *  value DG417xJ  Reference: U
Single SPST Monolithic CMOS Analog Switch, normally ON, 20Ohm Ron, DIP-8; ki_fp_filters: DIP*W7.62mm*; Footprint: Package_DIP:DIP-8_W7.62mm; Datasheet: https://datasheets.maximintegrated.com/en/ds/DG417-DG419.pdf; Description_: Single SPST Monolithic CMOS Analog Switch, normally ON, 20Ohm Ron, DIP-8; ki_keywords: CMOS Analog Switch
part A pins: 1, 6, 8
part B pins: 2 NC, 3 GND, 4 V+, 5 VL, 7 V-

## DG417xY
designator *  value DG417xY  Reference: U
Single SPST Monolithic CMOS Analog Switch, normally ON, 20Ohm Ron, SOIC-8; ki_fp_filters: SOIC*3.9x4.9mm*P1.27mm*; Footprint: Package_SO:SOIC-8_3.9x4.9mm_P1.27mm; Datasheet: https://datasheets.maximintegrated.com/en/ds/DG417-DG419.pdf; Description_: Single SPST Monolithic CMOS Analog Switch, normally ON, 20Ohm Ron, SOIC-8; ki_keywords: CMOS Analog Switch
part A pins: 1, 6, 8
part B pins: 2 NC, 3 GND, 4 V+, 5 VL, 7 V-

## DG418LDJ
designator *  value DG418LDJ  Reference: U
Single SPST 3V Logic Compatible CMOS Analog Switch, normally OFF, 35Ohm Ron, with Vlogic, DIP-8; ki_fp_filters: DIP*W7.62mm*; Footprint: Package_DIP:DIP-8_W7.62mm; Datasheet: https://datasheets.maximintegrated.com/en/ds/DG417-DG419.pdf; Description_: Single SPST 3V Logic Compatible CMOS Analog Switch, normally OFF, 35Ohm Ron, with Vlogic, DIP-8; ki_keywords: CMOS Analog Switch
part A pins: 1, 6, 8
part B pins: 2 NC, 3 GND, 4 V+, 5 VL, 7 V-

## DG418LDJ_Maxim
designator *  value DG418LDJ_Maxim  Reference: U
Single SPST 3V Logic Compatible CMOS Analog Switch, normally OFF, 35Ohm Ron, Maxim-variant without Vlogic, DIP-8; ki_fp_filters: DIP*W7.62mm*; Footprint: Package_DIP:DIP-8_W7.62mm; Datasheet: https://datasheets.maximintegrated.com/en/ds/DG417-DG419.pdf; Description_: Single SPST 3V Logic Compatible CMOS Analog Switch, normally OFF, 35Ohm Ron, Maxim-variant without Vlogic, DIP-8; ki_keywords: CMOS Analog Switch
part A pins: 1, 6, 8
part B pins: 2 NC, 3 GND, 4 V+, 5 NC, 7 V-

## DG418LDY
designator *  value DG418LDY  Reference: U
Single SPST 3V Logic Compatible CMOS Analog Switch, normally OFF, 35Ohm Ron, with Vlogic, SOIC-8; ki_fp_filters: SOIC*3.9x4.9mm*P1.27mm*; Footprint: Package_SO:SOIC-8_3.9x4.9mm_P1.27mm; Datasheet: https://datasheets.maximintegrated.com/en/ds/DG417-DG419.pdf; Description_: Single SPST 3V Logic Compatible CMOS Analog Switch, normally OFF, 35Ohm Ron, with Vlogic, SOIC-8; ki_keywords: CMOS Analog Switch
part A pins: 1, 6, 8
part B pins: 2 NC, 3 GND, 4 V+, 5 VL, 7 V-

## DG418LDY_Maxim
designator *  value DG418LDY_Maxim  Reference: U
Single SPST 3V Logic Compatible CMOS Analog Switch, normally OFF, 35Ohm Ron, Maxim-variant without Vlogic, SOIC-8; ki_fp_filters: SOIC*3.9x4.9mm*P1.27mm*; Footprint: Package_SO:SOIC-8_3.9x4.9mm_P1.27mm; Datasheet: https://datasheets.maximintegrated.com/en/ds/DG417-DG419.pdf; Description_: Single SPST 3V Logic Compatible CMOS Analog Switch, normally OFF, 35Ohm Ron, Maxim-variant without Vlogic, SOIC-8; ki_keywords: CMOS Analog Switch
part A pins: 1, 6, 8
part B pins: 2 NC, 3 GND, 4 V+, 5 NC, 7 V-

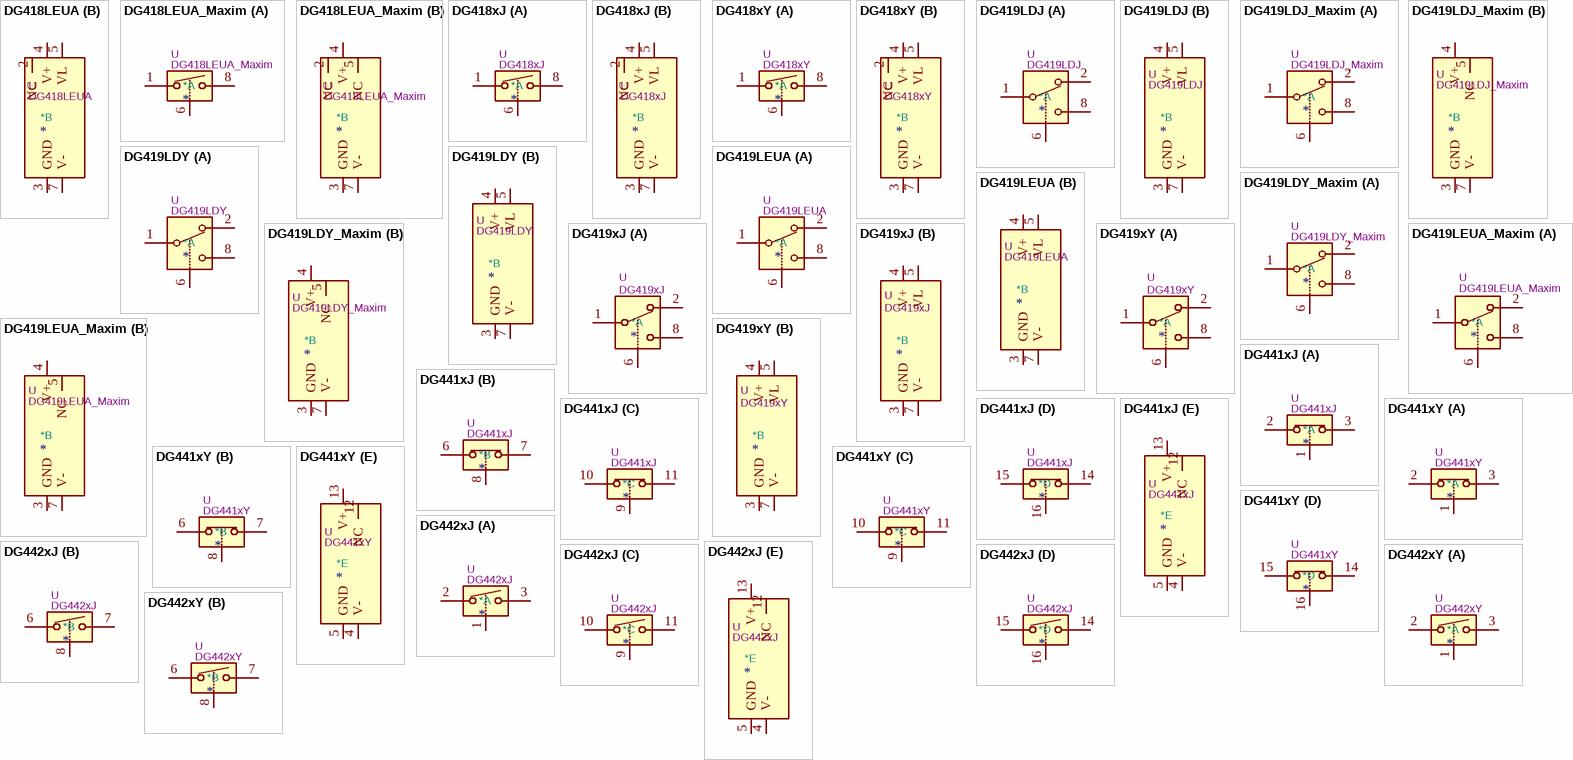
[diagram p4: symbols DG418LEUA to DG442xY]

## DG418LEUA
designator *  value DG418LEUA  Reference: U
Single SPST 3V Logic Compatible CMOS Analog Switch, normally OFF, 35Ohm Ron, with Vlogic, MSOP-8; ki_fp_filters: MSOP*3x3mm*P0.65mm*; Footprint: Package_SO:MSOP-8_3x3mm_P0.65mm; Datasheet: https://datasheets.maximintegrated.com/en/ds/DG417-DG419.pdf; Description_: Single SPST 3V Logic Compatible CMOS Analog Switch, normally OFF, 35Ohm Ron, with Vlogic, MSOP-8; ki_keywords: CMOS Analog Switch
part A pins: 1, 6, 8
part B pins: 2 NC, 3 GND, 4 V+, 5 VL, 7 V-

## DG418LEUA_Maxim
designator *  value DG418LEUA_Maxim  Reference: U
Single SPST 3V Logic Compatible CMOS Analog Switch, normally OFF, 35Ohm Ron, Maxim-variant without Vlogic, MSOP-8; ki_fp_filters: MSOP*3x3mm*P0.65mm*; Footprint: Package_SO:MSOP-8_3x3mm_P0.65mm; Datasheet: https://datasheets.maximintegrated.com/en/ds/DG417-DG419.pdf; Description_: Single SPST 3V Logic Compatible CMOS Analog Switch, normally OFF, 35Ohm Ron, Maxim-variant without Vlogic, MSOP-8; ki_keywords: CMOS Analog Switch
part A pins: 1, 6, 8
part B pins: 2 NC, 3 GND, 4 V+, 5 NC, 7 V-

## DG418xJ
designator *  value DG418xJ  Reference: U
Single SPST Monolithic CMOS Analog Switch, normally OFF, 20Ohm Ron, DIP-8; ki_fp_filters: DIP*W7.62mm*; Footprint: Package_DIP:DIP-8_W7.62mm; Datasheet: https://datasheets.maximintegrated.com/en/ds/DG417-DG419.pdf; Description_: Single SPST Monolithic CMOS Analog Switch, normally OFF, 20Ohm Ron, DIP-8; ki_keywords: CMOS Analog Switch
part A pins: 1, 6, 8
part B pins: 2 NC, 3 GND, 4 V+, 5 VL, 7 V-

## DG418xY
designator *  value DG418xY  Reference: U
Single SPST Monolithic CMOS Analog Switch, normally OFF, 20Ohm Ron, SOIC-8; ki_fp_filters: SOIC*3.9x4.9mm*P1.27mm*; Footprint: Package_SO:SOIC-8_3.9x4.9mm_P1.27mm; Datasheet: https://datasheets.maximintegrated.com/en/ds/DG417-DG419.pdf; Description_: Single SPST Monolithic CMOS Analog Switch, normally OFF, 20Ohm Ron, SOIC-8; ki_keywords: CMOS Analog Switch
part A pins: 1, 6, 8
part B pins: 2 NC, 3 GND, 4 V+, 5 VL, 7 V-

## DG419LDJ
designator *  value DG419LDJ  Reference: U
Single SPDT 3V Logic Compatible CMOS Analog Switch, 35Ohm Ron, with Vlogic, DIP-8; ki_fp_filters: DIP*W7.62mm*; Footprint: Package_DIP:DIP-8_W7.62mm; Datasheet: https://datasheets.maximintegrated.com/en/ds/DG417-DG419.pdf; Description_: Single SPDT 3V Logic Compatible CMOS Analog Switch, 35Ohm Ron, with Vlogic, DIP-8; ki_keywords: CMOS Analog Switch
part A pins: 1, 2, 6, 8
part B pins: 3 GND, 4 V+, 5 VL, 7 V-

## DG419LDJ_Maxim
designator *  value DG419LDJ_Maxim  Reference: U
Single SPDT 3V Logic Compatible CMOS Analog Switch, 35Ohm Ron, Maxim-variant without Vlogic, DIP-8; ki_fp_filters: DIP*W7.62mm*; Footprint: Package_DIP:DIP-8_W7.62mm; Datasheet: https://datasheets.maximintegrated.com/en/ds/DG417-DG419.pdf; Description_: Single SPDT 3V Logic Compatible CMOS Analog Switch, 35Ohm Ron, Maxim-variant without Vlogic, DIP-8; ki_keywords: CMOS Analog Switch
part A pins: 1, 2, 6, 8
part B pins: 3 GND, 4 V+, 5 NC, 7 V-

## DG419LDY
designator *  value DG419LDY  Reference: U
Single SPDT 3V Logic Compatible CMOS Analog Switch, 35Ohm Ron, with Vlogic, SOIC-8; ki_fp_filters: SOIC*3.9x4.9mm*P1.27mm*; Footprint: Package_SO:SOIC-8_3.9x4.9mm_P1.27mm; Datasheet: https://datasheets.maximintegrated.com/en/ds/DG417-DG419.pdf; Description_: Single SPDT 3V Logic Compatible CMOS Analog Switch, 35Ohm Ron, with Vlogic, SOIC-8; ki_keywords: CMOS Analog Switch
part A pins: 1, 2, 6, 8
part B pins: 3 GND, 4 V+, 5 VL, 7 V-

## DG419LDY_Maxim
designator *  value DG419LDY_Maxim  Reference: U
Single SPDT 3V Logic Compatible CMOS Analog Switch, 35Ohm Ron, Maxim-variant without Vlogic, SOIC-8; ki_fp_filters: SOIC*3.9x4.9mm*P1.27mm*; Footprint: Package_SO:SOIC-8_3.9x4.9mm_P1.27mm; Datasheet: https://datasheets.maximintegrated.com/en/ds/DG417-DG419.pdf; Description_: Single SPDT 3V Logic Compatible CMOS Analog Switch, 35Ohm Ron, Maxim-variant without Vlogic, SOIC-8; ki_keywords: CMOS Analog Switch
part A pins: 1, 2, 6, 8
part B pins: 3 GND, 4 V+, 5 NC, 7 V-

## DG419LEUA
designator *  value DG419LEUA  Reference: U
Single SPDT 3V Logic Compatible CMOS Analog Switch, 35Ohm Ron, with Vlogic, MSOP-8; ki_fp_filters: MSOP*3x3mm*P0.65mm*; Footprint: Package_SO:MSOP-8_3x3mm_P0.65mm; Datasheet: https://datasheets.maximintegrated.com/en/ds/DG417-DG419.pdf; Description_: Single SPDT 3V Logic Compatible CMOS Analog Switch, 35Ohm Ron, with Vlogic, MSOP-8; ki_keywords: CMOS Analog Switch
part A pins: 1, 2, 6, 8
part B pins: 3 GND, 4 V+, 5 VL, 7 V-

## DG419LEUA_Maxim
designator *  value DG419LEUA_Maxim  Reference: U
Single SPDT 3V Logic Compatible CMOS Analog Switch, 35Ohm Ron, Maxim-variant without Vlogic, MSOP-8; ki_fp_filters: MSOP*3x3mm*P0.65mm*; Footprint: Package_SO:MSOP-8_3x3mm_P0.65mm; Datasheet: https://datasheets.maximintegrated.com/en/ds/DG417-DG419.pdf; Description_: Single SPDT 3V Logic Compatible CMOS Analog Switch, 35Ohm Ron, Maxim-variant without Vlogic, MSOP-8; ki_keywords: CMOS Analog Switch
part A pins: 1, 2, 6, 8
part B pins: 3 GND, 4 V+, 5 NC, 7 V-

## DG419xJ
designator *  value DG419xJ  Reference: U
Single SPDT Monolithic CMOS Analog Switch, 20Ohm Ron, DIP-8; ki_fp_filters: DIP*W7.62mm*; Footprint: Package_DIP:DIP-8_W7.62mm; Datasheet: https://datasheets.maximintegrated.com/en/ds/DG417-DG419.pdf; Description_: Single SPDT Monolithic CMOS Analog Switch, 20Ohm Ron, DIP-8; ki_keywords: CMOS Analog Switch
part A pins: 1, 2, 6, 8
part B pins: 3 GND, 4 V+, 5 VL, 7 V-

## DG419xY
designator *  value DG419xY  Reference: U
Single SPDT Monolithic CMOS Analog Switch, 20Ohm Ron, SOIC-8; ki_fp_filters: SOIC*3.9x4.9mm*P1.27mm*; Footprint: Package_SO:SOIC-8_3.9x4.9mm_P1.27mm; Datasheet: https://datasheets.maximintegrated.com/en/ds/DG417-DG419.pdf; Description_: Single SPDT Monolithic CMOS Analog Switch, 20Ohm Ron, SOIC-8; ki_keywords: CMOS Analog Switch
part A pins: 1, 2, 6, 8
part B pins: 3 GND, 4 V+, 5 VL, 7 V-

## DG441xJ
designator *  value DG441xJ  Reference: U
Quad SPST Analog Switches, normally ON, 60Ohm Ron, DIP-16; ki_keywords: CMOS Analog Switch; ki_fp_filters: DIP*W7.62mm*; Footprint: Package_DIP:DIP-16_W7.62mm; Datasheet: https://datasheets.maximintegrated.com/en/ds/DG441-DG442.pdf; Description_: Quad SPST Analog Switches, normally ON, 60Ohm Ron, DIP-16
part A pins: 1, 2, 3
part B pins: 6, 7, 8
part C pins: 9, 10, 11
part D pins: 14, 15, 16
part E pins: 4 V-, 5 GND, 12 NC, 13 V+

## DG441xY
designator *  value DG441xY  Reference: U
Quad SPST Analog Switches, normally ON, 60Ohm Ron, SOIC-16; ki_keywords: CMOS Analog Switch; ki_fp_filters: SOIC*3.9x9.9mm*P1.27mm*; Footprint: Package_SO:SOIC-16_3.9x9.9mm_P1.27mm; Datasheet: https://datasheets.maximintegrated.com/en/ds/DG441-DG442.pdf; Description_: Quad SPST Analog Switches, normally ON, 60Ohm Ron, SOIC-16
part A pins: 1, 2, 3
part B pins: 6, 7, 8
part C pins: 9, 10, 11
part D pins: 14, 15, 16
part E pins: 4 V-, 5 GND, 12 NC, 13 V+

## DG442xJ
designator *  value DG442xJ  Reference: U
Quad SPST Analog Switches, normally OFF, 60Ohm Ron, DIP-16; ki_keywords: CMOS Analog Switch; ki_fp_filters: DIP*W7.62mm*; Footprint: Package_DIP:DIP-16_W7.62mm; Datasheet: https://datasheets.maximintegrated.com/en/ds/DG441-DG442.pdf; Description_: Quad SPST Analog Switches, normally OFF, 60Ohm Ron, DIP-16
part A pins: 1, 2, 3
part B pins: 6, 7, 8
part C pins: 9, 10, 11
part D pins: 14, 15, 16
part E pins: 4 V-, 5 GND, 12 NC, 13 V+

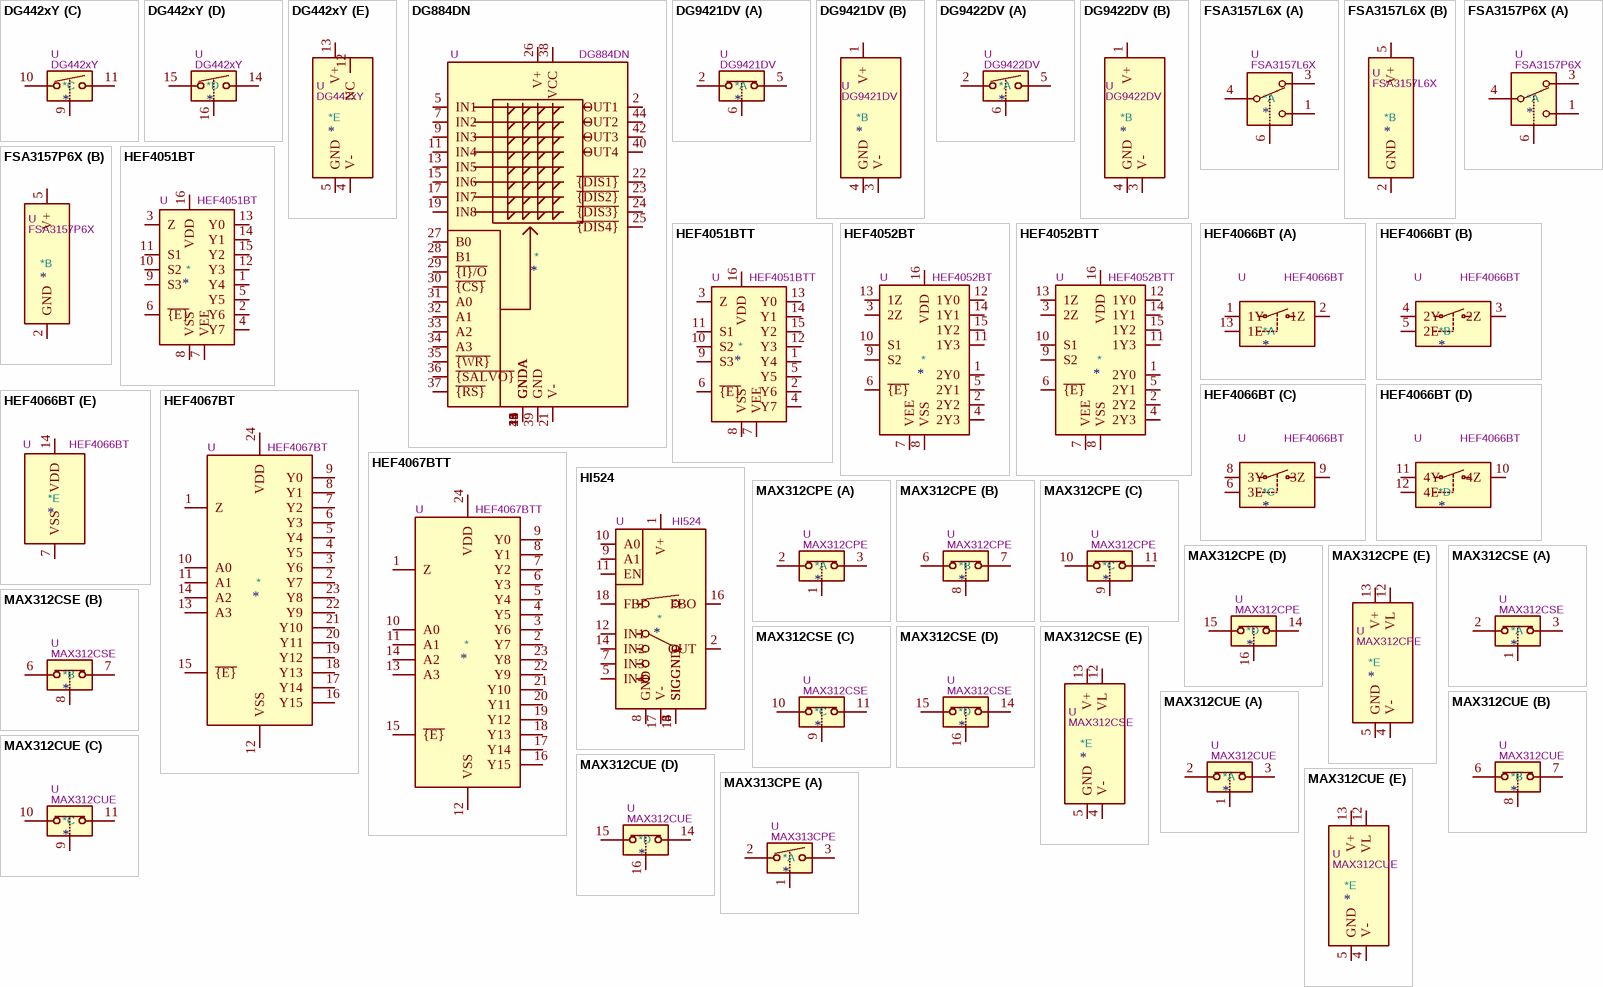
[diagram p5: symbols DG442xY to MAX313CPE]

## DG442xY
designator *  value DG442xY  Reference: U
Quad SPST Analog Switches, normally OFF, 60Ohm Ron, SOIC-16; ki_keywords: CMOS Analog Switch; ki_fp_filters: SOIC*3.9x9.9mm*P1.27mm*; Footprint: Package_SO:SOIC-16_3.9x9.9mm_P1.27mm; Datasheet: https://datasheets.maximintegrated.com/en/ds/DG441-DG442.pdf; Description_: Quad SPST Analog Switches, normally OFF, 60Ohm Ron, SOIC-16
part A pins: 1, 2, 3
part B pins: 6, 7, 8
part C pins: 9, 10, 11
part D pins: 14, 15, 16
part E pins: 4 V-, 5 GND, 12 NC, 13 V+

## DG884DN
designator *  value DG884DN  Reference: U
8 x 4 Wideband Video Crosspoint Array, 45Ohm Ron, PLCC-44; ki_keywords: CMOS Analog Switch Video Crosspoint; ki_fp_filters: PLCC?44*; Footprint: Package_LCC:PLCC-44; Datasheet: http://www.vishay.com/docs/70071/dg884.pdf; Description_: 8 x 4 Wideband Video Crosspoint Array, 45Ohm Ron, PLCC-44
pins: 1 GNDA, 2 OUT1, 3 GNDA, 4 GNDA, 5 IN1, 6 GNDA, 7 IN2, 8 GNDA, 9 IN3, 10 GNDA, 11 IN4, 12 GNDA, 13 IN5, 14 GNDA, 15 IN6, 16 GNDA, 17 IN7, 18 GNDA, 19 IN8, 20 GNDA, 21 V-, 22 ~{{DIS1}}, 23 ~{{DIS2}}, 24 ~{{DIS3}}, 25 ~{{DIS4}}, 26 V+, 27 B0, 28 B1, 29 ~{{I}/O}, 30 ~{{CS}}, 31 A0, 32 A1, 33 A2, 34 A3, 35 ~{{WR}}, 36 ~{{SALVO}}, 37 ~{{RS}}, 38 VCC, 39 GND, 40 OUT4, 41 GNDA, 42 OUT3, 43 GNDA, 44 OUT2

## DG9421DV
designator *  value DG9421DV  Reference: U
Single SPST Precision Low-Voltage, Low-Glitch CMOS Analog Switch, normally ON, 2Ohm Ron, TSOP-6; ki_fp_filters: TSOP*1.65x3.05mm*P0.95mm*; Footprint: Package_SO:TSOP-6_1.65x3.05mm_P0.95mm; Datasheet: https://www.vishay.com/docs/70679/dg9421.pdf; Description_: Single SPST Precision Low-Voltage, Low-Glitch CMOS Analog Switch, normally ON, 2Ohm Ron, TSOP-6; ki_keywords: CMOS Analog Switch
part A pins: 2, 5, 6
part B pins: 1 V+, 3 V-, 4 GND

## DG9422DV
designator *  value DG9422DV  Reference: U
Single SPST Precision Low-Voltage, Low-Glitch CMOS Analog Switch, normally OFF, 2Ohm Ron, TSOP-6; ki_fp_filters: TSOP*1.65x3.05mm*P0.95mm*; Footprint: Package_SO:TSOP-6_1.65x3.05mm_P0.95mm; Datasheet: https://www.vishay.com/docs/70679/dg9421.pdf; Description_: Single SPST Precision Low-Voltage, Low-Glitch CMOS Analog Switch, normally OFF, 2Ohm Ron, TSOP-6; ki_keywords: CMOS Analog Switch
part A pins: 2, 5, 6
part B pins: 1 V+, 3 V-, 4 GND

## FSA3157L6X
designator *  value FSA3157L6X  Reference: U
Single SPDT Low-Voltage Analog Switch or 2:1 Multiplexer/De-Multiplexer Bus Switch, 10Ohm Ron, MicroPak-6; ki_keywords: CMOS Analog Switch; ki_fp_filters: Fairchild*MicroPak*1.0x1.45mm*P0.5mm*; Footprint: Package_SON:Fairchild_MicroPak-6_1.0x1.45mm_P0.5mm; Datasheet: https://www.onsemi.com/pub/Collateral/NC7SB3157-D.PDF; Description_: Single SPDT Low-Voltage Analog Switch or 2:1 Multiplexer/De-Multiplexer Bus Switch, 10Ohm Ron, MicroPak-6
part A pins: 1, 3, 4, 6
part B pins: 2 GND, 5 V+

## FSA3157P6X
designator *  value FSA3157P6X  Reference: U
Single SPDT Low-Voltage Analog Switch or 2:1 Multiplexer/De-Multiplexer Bus Switch, 10Ohm Ron, SC-70-6; ki_keywords: CMOS Analog Switch; ki_fp_filters: *SC?70*; Footprint: Package_TO_SOT_SMD:SOT-363_SC-70-6; Datasheet: https://www.onsemi.com/pub/Collateral/NC7SB3157-D.PDF; Description_: Single SPDT Low-Voltage Analog Switch or 2:1 Multiplexer/De-Multiplexer Bus Switch, 10Ohm Ron, SC-70-6
part A pins: 1, 3, 4, 6
part B pins: 2 GND, 5 V+

## HEF4051BT
designator *  value HEF4051BT  Reference: U
8-channel analog multiplexer / demultiplexer, 3.0..15.0V supply voltage, SOIC-16; ki_keywords: mux demux analog-switch; ki_fp_filters: *SOIC*3.9x9.9mm*P1.27mm*; Footprint: Package_SO:SOIC-16_3.9x9.9mm_P1.27mm; Datasheet: https://assets.nexperia.com/documents/data-sheet/HEF4051B.pdf; Description_: 8-channel analog multiplexer / demultiplexer, 3.0..15.0V supply voltage, SOIC-16
pins: 1 Y4, 2 Y6, 3 Z, 4 Y7, 5 Y5, 6 ~{{E}}, 7 VEE, 8 VSS, 9 S3, 10 S2, 11 S1, 12 Y3, 13 Y0, 14 Y1, 15 Y2, 16 VDD

## HEF4051BTT
designator *  value HEF4051BTT  Reference: U
8-channel analog multiplexer / demultiplexer, 3.0..15.0V supply voltage, TSSOP-16; ki_keywords: mux demux analog-switch; ki_fp_filters: *TSSOP*4.4x5mm*P0.65mm*; Footprint: Package_SO:TSSOP-16_4.4x5mm_P0.65mm; Datasheet: https://assets.nexperia.com/documents/data-sheet/HEF4051B.pdf; Description_: 8-channel analog multiplexer / demultiplexer, 3.0..15.0V supply voltage, TSSOP-16
pins: 1 Y4, 2 Y6, 3 Z, 4 Y7, 5 Y5, 6 ~{{E}}, 7 VEE, 8 VSS, 9 S3, 10 S2, 11 S1, 12 Y3, 13 Y0, 14 Y1, 15 Y2, 16 VDD

## HEF4052BT
designator *  value HEF4052BT  Reference: U
Dual 4-channel analog multiplexer / demultiplexer, 3.0..15.0V supply voltage, SOIC-16; ki_keywords: mux demux analog-switch; ki_fp_filters: *SOIC*3.9x9.9mm*P1.27mm*; Footprint: Package_SO:SOIC-16_3.9x9.9mm_P1.27mm; Datasheet: https://assets.nexperia.com/documents/data-sheet/HEF4052B.pdf; Description_: Dual 4-channel analog multiplexer / demultiplexer, 3.0..15.0V supply voltage, SOIC-16
pins: 1 2Y0, 2 2Y2, 3 2Z, 4 2Y3, 5 2Y1, 6 ~{{E}}, 7 VEE, 8 VSS, 9 S2, 10 S1, 11 1Y3, 12 1Y0, 13 1Z, 14 1Y1, 15 1Y2, 16 VDD

## HEF4052BTT
designator *  value HEF4052BTT  Reference: U
Dual 4-channel analog multiplexer / demultiplexer, 3.0..15.0V supply voltage, TSSOP-16; ki_keywords: mux demux analog-switch; ki_fp_filters: *TSSOP*4.4x5mm*P0.65mm*; Footprint: Package_SO:TSSOP-16_4.4x5mm_P0.65mm; Datasheet: https://assets.nexperia.com/documents/data-sheet/HEF4052B.pdf; Description_: Dual 4-channel analog multiplexer / demultiplexer, 3.0..15.0V supply voltage, TSSOP-16
pins: 1 2Y0, 2 2Y2, 3 2Z, 4 2Y3, 5 2Y1, 6 ~{{E}}, 7 VEE, 8 VSS, 9 S2, 10 S1, 11 1Y3, 12 1Y0, 13 1Z, 14 1Y1, 15 1Y2, 16 VDD

## HEF4066BT
designator *  value HEF4066BT  Reference: U
Quad single-pole single-throw analog switch, 3.0...15.0V supply, VI = 0...VDD, f(-3dB) = 90MHz, RON(peak) = 350 / 80 / 60 ohms (for VI from 0V to VDD, with VDD 5 / 10 / 15V respectively), SOIC-14; ki_keywords: ESD CMOS; ki_fp_filters: *SO*3.9*8.*P1.27mm*; Footprint: Package_SO:SOIC-14_3.9x8.7mm_P1.27mm; Datasheet: https://assets.nexperia.com/documents/data-sheet/HEF4066B.pdf; Description_: Quad single-pole single-throw analog switch, 3.0...15.0V supply, VI = 0...VDD, f(-3dB) = 90MHz, RON(peak) = 350 / 80 / 60 ohms (for VI from 0V to VDD, with VDD 5 / 10 / 15V respectively), SOIC-14
part A pins: 1 1Y, 2 1Z, 13 1E
part B pins: 3 2Z, 4 2Y, 5 2E
part C pins: 6 3E, 8 3Y, 9 3Z
part D pins: 10 4Z, 11 4Y, 12 4E
part E pins: 7 VSS, 14 VDD

## HEF4067BT
designator *  value HEF4067BT  Reference: U
16-channel analog multiplexer / demultiplexer, 3.0..15.0V supply voltage, SOIC-24; ki_keywords: mux demux analog-switch; ki_fp_filters: *SOIC*7.5x15.4mm*P1.27mm*; Footprint: Package_SO:SOIC-24W_7.5x15.4mm_P1.27mm; Datasheet: https://assets.nexperia.com/documents/data-sheet/HEF4067B.pdf; Description_: 16-channel analog multiplexer / demultiplexer, 3.0..15.0V supply voltage, SOIC-24
pins: 1 Z, 2 Y7, 3 Y6, 4 Y5, 5 Y4, 6 Y3, 7 Y2, 8 Y1, 9 Y0, 10 A0, 11 A1, 12 VSS, 13 A3, 14 A2, 15 ~{{E}}, 16 Y15, 17 Y14, 18 Y13, 19 Y12, 20 Y11, 21 Y10, 22 Y9, 23 Y8, 24 VDD

## HEF4067BTT
designator *  value HEF4067BTT  Reference: U
16-channel analog multiplexer / demultiplexer, 3.0..15.0V supply voltage, TSSOP-24; ki_keywords: mux demux analog-switch; ki_fp_filters: *TSSOP*4.4x7.8mm*P0.65mm*; Footprint: Package_SO:TSSOP-24_4.4x7.8mm_P0.65mm; Datasheet: https://assets.nexperia.com/documents/data-sheet/HEF4067B.pdf; Description_: 16-channel analog multiplexer / demultiplexer, 3.0..15.0V supply voltage, TSSOP-24
pins: 1 Z, 2 Y7, 3 Y6, 4 Y5, 5 Y4, 6 Y3, 7 Y2, 8 Y1, 9 Y0, 10 A0, 11 A1, 12 VSS, 13 A3, 14 A2, 15 ~{{E}}, 16 Y15, 17 Y14, 18 Y13, 19 Y12, 20 Y11, 21 Y10, 22 Y9, 23 Y8, 24 VDD

## HI524
designator *  value HI524  Reference: U
4-Channel Wideband and Video Multiplexer, DIP-18; ki_keywords: Video Multiplexer analog switch; ki_fp_filters: DIP*W7.62mm*; Footprint: Package_DIP:DIP-18_W7.62mm; Datasheet: https://www.intersil.com/content/dam/Intersil/documents/hi-5/hi-524.pdf; Description_: 4-Channel Wideband and Video Multiplexer, DIP-18
pins: 1 V+, 2 OUT, 3 SIGGND, 4 SIGGND, 5 IN4, 6 SIGGND, 7 IN3, 8 GND, 9 A1, 10 A0, 11 EN, 12 IN1, 13 SIGGND, 14 IN2, 15 SIGGND, 16 FBO, 17 V-, 18 FBI

## MAX312CPE
designator *  value MAX312CPE  Reference: U
Quad SPST CMOS Analog Switches, normally ON, 6.5Ohm Ron, DIP-16; ki_fp_filters: DIP*W7.62mm*; Footprint: Package_DIP:DIP-16_W7.62mm; Datasheet: https://datasheets.maximintegrated.com/en/ds/MAX312-MAX314.pdf; Description_: Quad SPST CMOS Analog Switches, normally ON, 6.5Ohm Ron, DIP-16; ki_keywords: CMOS Analog Switch
part A pins: 1, 2, 3
part B pins: 6, 7, 8
part C pins: 9, 10, 11
part D pins: 14, 15, 16
part E pins: 4 V-, 5 GND, 12 VL, 13 V+

## MAX312CSE
designator *  value MAX312CSE  Reference: U
Quad SPST CMOS Analog Switches, normally ON, 6.5Ohm Ron, SOIC-16; ki_fp_filters: SOIC*3.9x9.9mm*P1.27mm*; Footprint: Package_SO:SOIC-16_3.9x9.9mm_P1.27mm; Datasheet: https://datasheets.maximintegrated.com/en/ds/MAX312-MAX314.pdf; Description_: Quad SPST CMOS Analog Switches, normally ON, 6.5Ohm Ron, SOIC-16; ki_keywords: CMOS Analog Switch
part A pins: 1, 2, 3
part B pins: 6, 7, 8
part C pins: 9, 10, 11
part D pins: 14, 15, 16
part E pins: 4 V-, 5 GND, 12 VL, 13 V+

## MAX312CUE
designator *  value MAX312CUE  Reference: U
Quad SPST CMOS Analog Switches, normally ON, 6.5Ohm Ron, TSSOP-16; ki_fp_filters: TSSOP*4.4x5mm*P0.65mm*; Footprint: Package_SO:TSSOP-16_4.4x5mm_P0.65mm; Datasheet: https://datasheets.maximintegrated.com/en/ds/MAX312-MAX314.pdf; Description_: Quad SPST CMOS Analog Switches, normally ON, 6.5Ohm Ron, TSSOP-16; ki_keywords: CMOS Analog Switch
part A pins: 1, 2, 3
part B pins: 6, 7, 8
part C pins: 9, 10, 11
part D pins: 14, 15, 16
part E pins: 4 V-, 5 GND, 12 VL, 13 V+

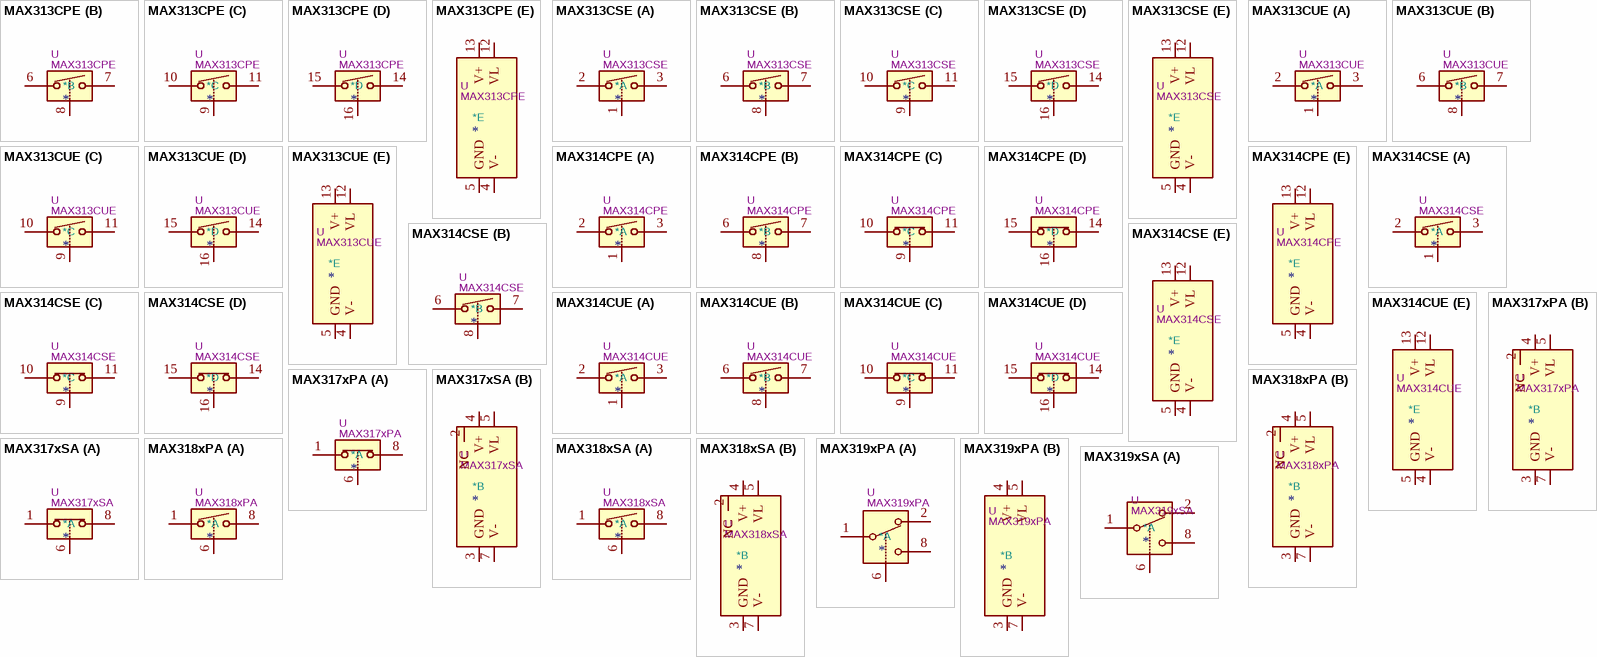
[diagram p6: symbols MAX313CPE to MAX319xSA]

## MAX313CPE
designator *  value MAX313CPE  Reference: U
Quad SPST CMOS Analog Switches, normally OFF, 6.5Ohm Ron, DIP-16; ki_fp_filters: DIP*W7.62mm*; Footprint: Package_DIP:DIP-16_W7.62mm; Datasheet: https://datasheets.maximintegrated.com/en/ds/MAX312-MAX314.pdf; Description_: Quad SPST CMOS Analog Switches, normally OFF, 6.5Ohm Ron, DIP-16; ki_keywords: CMOS Analog Switch
part A pins: 1, 2, 3
part B pins: 6, 7, 8
part C pins: 9, 10, 11
part D pins: 14, 15, 16
part E pins: 4 V-, 5 GND, 12 VL, 13 V+